# Altium schematic symbol library YH_Design.SchLib: 153 symbols (part 2 of 3)
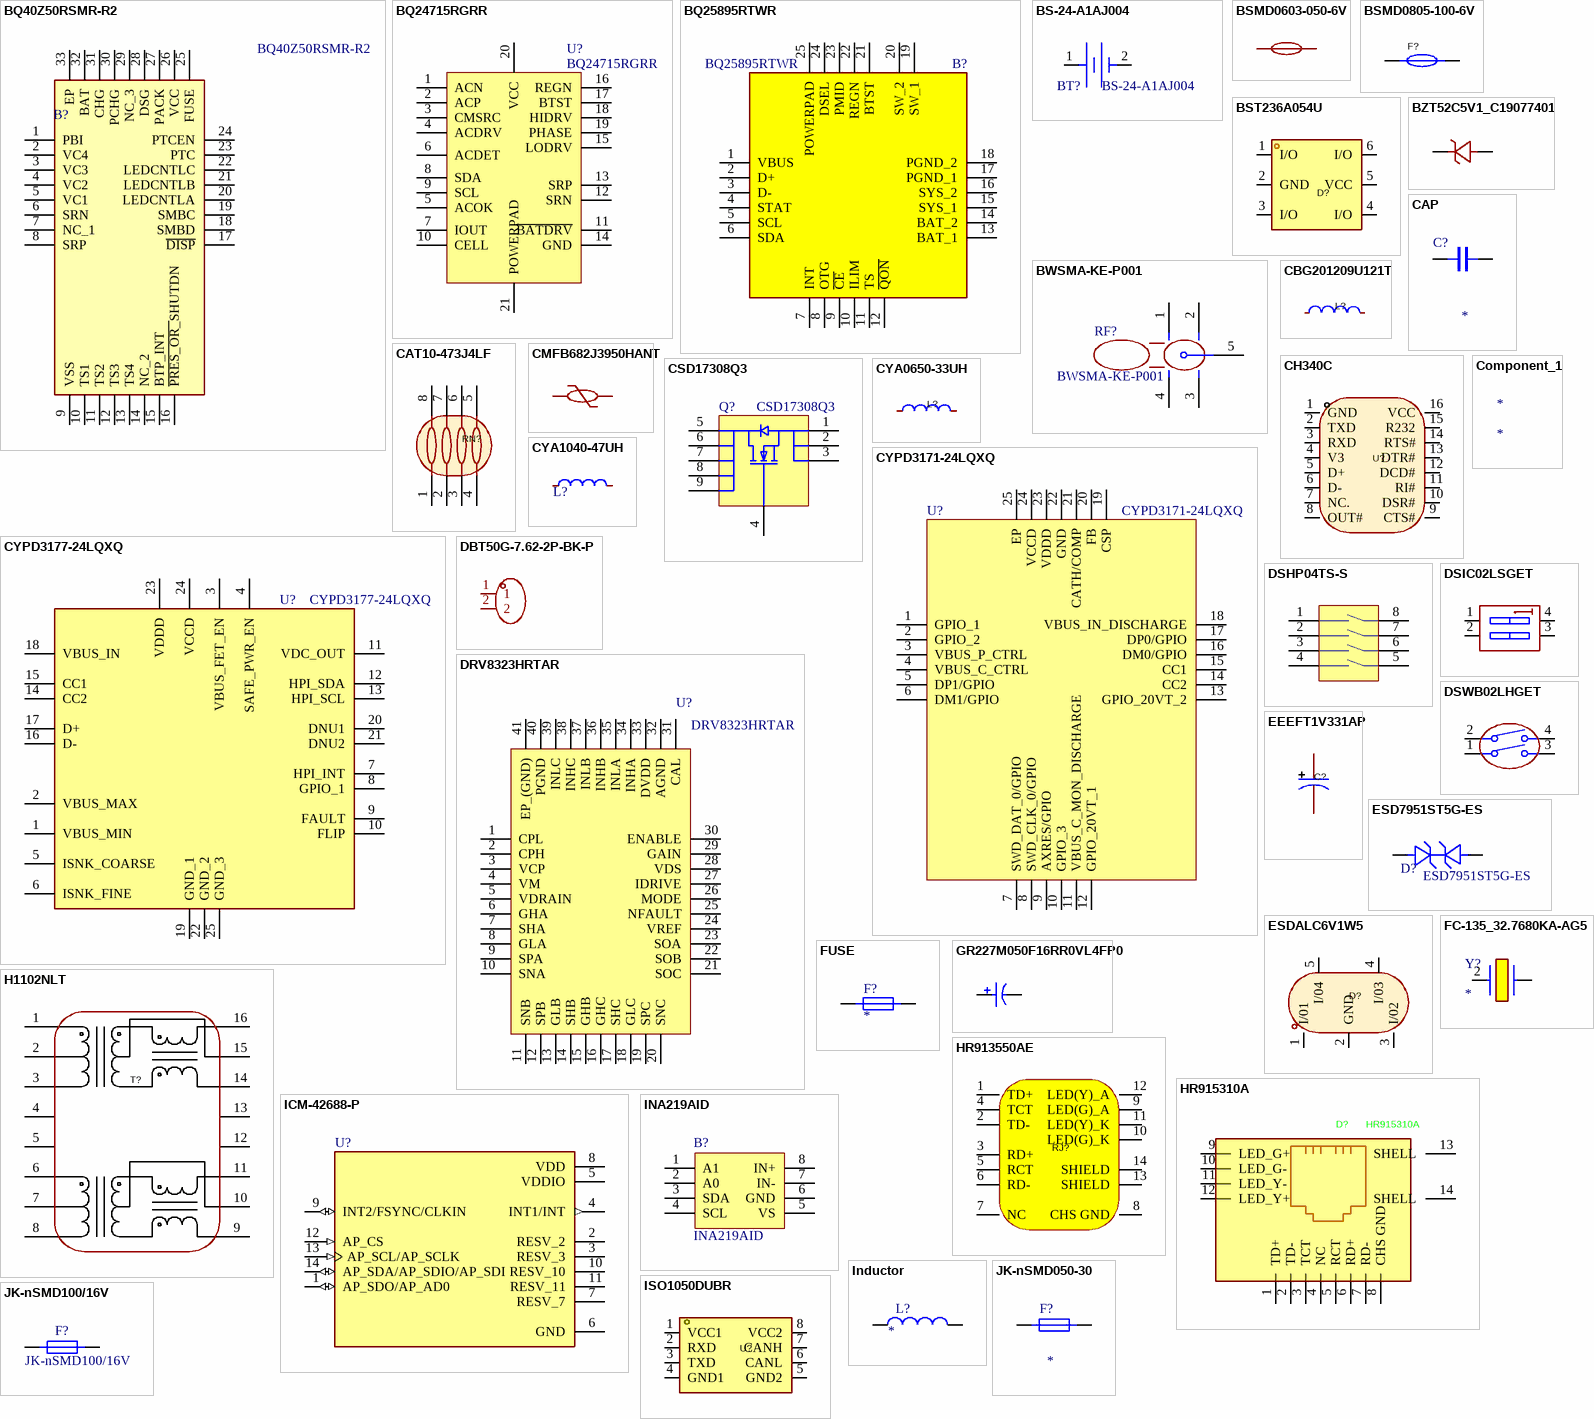
[diagram p8: symbols BQ40Z50RSMR-R2 to JK-nSMD100/16V]

## ICM-42688-P
designator U?
Accelerometer, Gyroscope, 6 Axis Sensor Output; MP: ICM-42688-P; Package: None; Value: *; Availability: Unavailable; Price: None
footprint PQFN50P300X250X97-14N
pins: 1 AP_SDO/AP_AD0 (io), 2 RESV_2, 3 RESV_3, 4 INT1/INT (out), 5 VDDIO (power), 6 GND (power), 7 RESV_7, 8 VDD (power), 9 INT2/FSYNC/CLKIN (io), 10 RESV_10, 11 RESV_11, 12 AP_CS (in), 13 AP_SCL/AP_SCLK (in), 14 AP_SDA/AP_SDIO/AP_SDI (io)

## INA219AID
designator B?
Current/Power Monitor Zero-Drift I2C SO8 Texas Instruments INA219AID, Current Monitor Single Bidirectional 8-Pin SOIC; Geometry.Height: 1.75mm; Manufacturer_Name: Texas Instruments; Manufacturer_Part_Number: INA219AID; Mouser Part Number: 595-INA219AID; Mouser Price/Stock: https://www.mouser.co.uk/ProductDetail/Texas-Instruments/INA219AID?qs=XGzIaZb%2FFYIUkaTzaWujeA%3D%3D; Arrow Part Number: INA219AID; Arrow Price/Stock: https://www.arrow.com/en/products/ina219aid/texas-instruments?utm_currency=USD&region=nac; Datasheet Link: http://www.ti.com/lit/ds/symlink/ina219.pdf
footprint SOIC127P600X175-8N
pins: 1 A1, 2 A0, 3 SDA, 4 SCL, 5 VS, 6 GND, 7 IN-, 8 IN+

## Inductor
designator L?
Inductor
footprint L0603
footprint L0805
footprint INDC1005X65N
pins: 1, 2

## ISO1050DUBR
designator U?  (value not drawn)
CAN Transiver; Manufacturer: TI(德州仪器); Add into BOM: yes; Symbol: ISO1050DUBR; Device: ISO1050DUBR; LCSC Part Name: 1Mbps 3V~5.5V; Supplier Part: C16428; Manufacturer Part: ISO1050DUBR; Supplier Footprint: SOP-8; JLCPCB Part Class: Extended Part; Datasheet: https://www.ti.com/cn/lit/gpn/iso1050; Supplier: LCSC; Convert to PCB: yes
footprint SOIC-8_L9.3-W6.6-P2.54-LS10.4-BL
pins: 1 VCC1, 2 RXD, 3 TXD, 4 GND1, 5 GND2, 6 CANL, 7 CANH, 8 VCC2

## JK-nSMD050-30
designator F?
30V 500mA 1206 PPTC
footprint F1206
pins: 1, 2

## JK-nSMD100/16V
designator F?
footprint F1206
pins: 1, 2

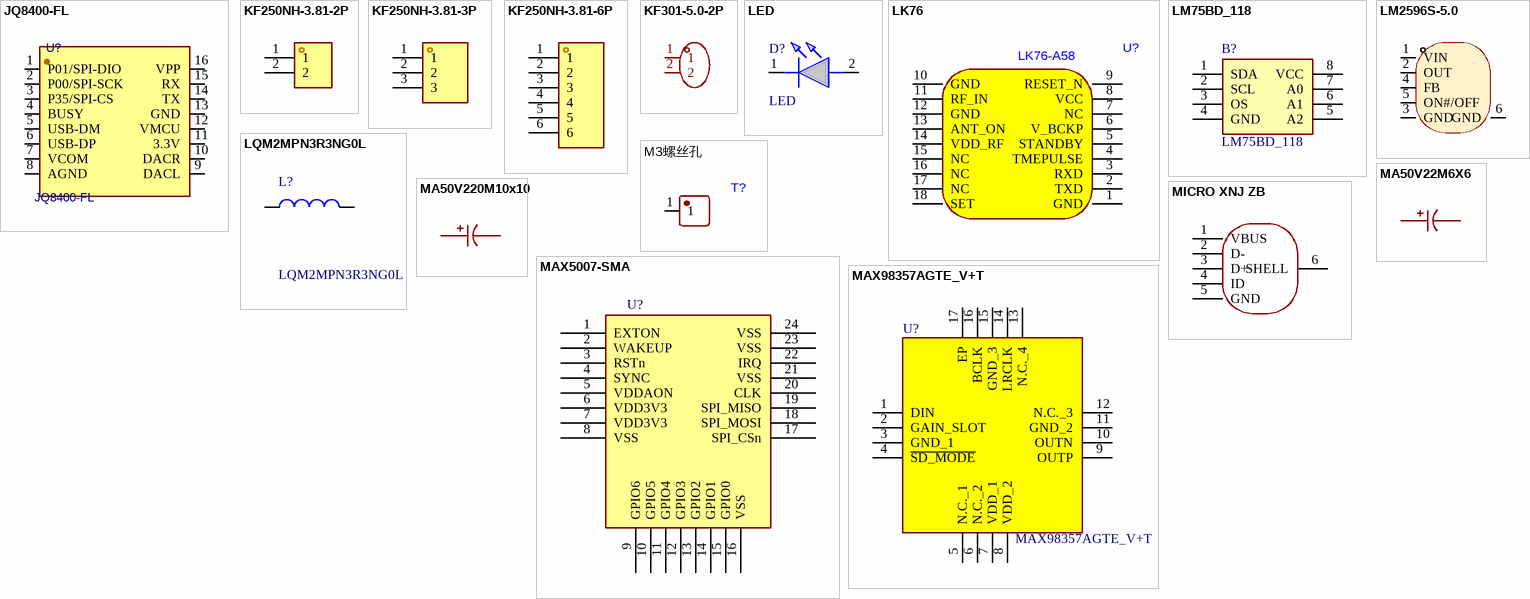
[diagram p3: symbols JQ8400-FL to MICRO XNJ ZB]

## JQ8400-FL
designator U?
Manufacturer: JQ; Contributor: youhaishan; Manufacturer Part: JQ8400-FL; spicePre: U; spiceSymbolName: JQ8400-FL
footprint JQ8400-FL_SOP16
pins: 1 P01/SPI-DIO, 2 P00/SPI-SCK, 3 P35/SPI-CS, 4 BUSY, 5 USB-DM, 6 USB-DP, 7 VCOM, 8 AGND, 9 DACL, 10 DACR, 11 3.3V, 12 VMCU, 13 GND, 14 TX, 15 RX, 16 VPP

## KF250NH-3.81-2P
designator CN?  (value not drawn)
Manufacturer: KEFA(科发); Add into BOM: yes; Structure: 1x2P; Pitch: 3.81mm; Number of PINs Per Row: 2; Current Rating (Max): 15A; Voltage Rating (Max): 250V; Wire Gauge - AWG: 16~20; Wire Gauge - mm2: 1.5; Symbol: KF250NH-3.81-2P; Device: KF250NH-3.81-2P; LCSC Part Name: 1x2P 3.81mm 每排P数:2 排数:1; Supplier Part: C976576; Manufacturer Part: KF250NH-3.81-2P; Supplier Footprint: 插件,P=3.81mm; JLCPCB Part Class: Extended Part; Datasheet: https://atta.szlcsc.com/upload/public/pdf/source/20230331/5FDF57859E00C3E92BC4C90704E69B44.pdf; Supplier: LCSC; Convert to PCB: yes; Color: 绿色; Mounting Style: -; Number of Pins: 2P; Operating Temperature Range: -40℃~+105℃; Number of Rows: 1
footprint CONN-TH_KF250NH-3.81-2P
3D model CONN-TH_KF250NH-3.81-2P
pins: 1, 2

## KF250NH-3.81-3P
designator CN?  (value not drawn)
Manufacturer: KEFA(科发); Add into BOM: yes; Structure: 1x3P; Pitch: 3.81mm; Number of PINs Per Row: 3; Current Rating (Max): 15A; Voltage Rating (Max): 250V; Wire Gauge - AWG: 16~20; Wire Gauge - mm2: 1.5; Symbol: KF250NH-3.81-3P; Device: KF250NH-3.81-3P; LCSC Part Name: 1x3P 3.81mm 每排P数:3 排数:1; Supplier Part: C976577; Manufacturer Part: KF250NH-3.81-3P; Supplier Footprint: 插件,P=3.81mm; JLCPCB Part Class: Extended Part; Datasheet: https://atta.szlcsc.com/upload/public/pdf/source/20230331/5FDF57859E00C3E92BC4C90704E69B44.pdf; Supplier: LCSC; Convert to PCB: yes; Color: 绿色; Mounting Style: -; Number of Pins: 3P; Operating Temperature Range: -40℃~+105℃; Number of Rows: 1
footprint CONN-TH_KF250NH-3.81-3P
3D model CONN-TH_KF250NH-3.81-3P
pins: 1, 2, 3

## KF250NH-3.81-6P
designator CN?  (value not drawn)
Manufacturer: KEFA(科发); Add into BOM: yes; Structure: 2x6P; Pitch: 3.81mm; Number of PINs Per Row: 6; Current Rating (Max): 15A; Voltage Rating (Max): 250V; Wire Gauge - AWG: 16~20; Wire Gauge - mm2: 1.5; Symbol: KF250NH-3.81-6P; Device: KF250NH-3.81-6P; Manufacturer Part: KF250NH-3.81-6P; Datasheet: https://atta.szlcsc.com/upload/public/pdf/source/20230317/14A5D911ED19005EE5AA9D1AD2D017FF.pdf; Supplier: LCSC; Convert to PCB: yes; Color: 绿色; Mounting Style: -; Number of Pins: 6P; Operating Temperature Range: -40℃~+105℃; Number of Rows: 2
footprint CONN-TH_KF250NH-3.81-6P
pins: 1, 2, 3, 4, 5, 6

## KF301-5.0-2P
designator U?  (value not drawn)
Manufacturer: KEFA(科发); Add into BOM: yes; Structure: 1x2P; Pitch: 5mm; Current Rating (Max): 17A; Voltage Rating (Max): 250V; Wire Gauge - AWG: 14~22; Wire Gauge - mm2: 1.5; Number of PINs Per Row: 2; Symbol: KF301-5.0-2P; Device: KF301-5.0-2P; LCSC Part Name: 5mm 1x2P 排数:1 每排P数:2 直插; Supplier Part: C474881; Manufacturer Part: KF301-5.0-2P; Supplier Footprint: 插件,P=5mm; JLCPCB Part Class: Extended Part; Datasheet: https://atta.szlcsc.com/upload/public/pdf/source/20230317/03A5B5FC229D6F9225E8F51DA1A4E80A.pdf; Supplier: LCSC; Convert to PCB: yes; Color: 蓝色; Mounting Style: 直插; Number of Pins: 2P; Number of Rows: 1; Operating Temperature Range: -30℃~+120℃
footprint CONN-TH_P5.00_KF301-5.0-2P
pins: 1, 2

## LED
designator D?
LED SMD 0805
footprint LED0805
pins: 1 K, 2 A

## LK76
designator U?, comment LK76-A58
GNSS Module
footprint LCC-18_9P7X10P1_STM-M
footprint LCC-18_9P7X10P1_STM
pins: 1 GND, 2 TXD, 3 RXD, 4 TMEPULSE, 5 STANDBY, 6 V_BCKP, 7 NC, 8 VCC, 9 RESET_N, 10 GND, 11 RF_IN, 12 GND, 13 ANT_ON, 14 VDD_RF, 15 NC, 16 NC, 17 NC, 18 SET

## LM75BD_118
designator B?
NXP - LM75BD,118 - TEMPERATURE SENSOR, OPEN DRAIN, SOIC-8; Geometry.Height: 1.75mm; Manufacturer_Name: NXP; Manufacturer_Part_Number: LM75BD,118; Mouser Part Number: 771-LM75BD118; Mouser Price/Stock: https://www.mouser.co.uk/ProductDetail/NXP-Semiconductors/LM75BD118?qs=tKEQ0l%252B78Dle%2FKEoz9Gpmw%3D%3D; Arrow Part Number: LM75BD,118; Arrow Price/Stock: https://www.arrow.com/en/products/lm75bd118/nxp-semiconductors?region=nac; Datasheet Link: http://www.nxp.com/docs/en/data-sheet/LM75B.pdf
footprint SOIC127P600X175-8N
pins: 1 SDA, 2 SCL, 3 OS, 4 GND, 5 A2, 6 A1, 7 A0, 8 VCC

## LM2596S-5.0
designator U?, comment LM2596S-5.0_1  (value not drawn)
3A Step-Down Voltage Regulator; Manufacturer: TWGMC(台湾迪嘉); Symbol: LM2596S-5.0_C5276750; Add into BOM: yes; Device: LM2596S-5.0_1; LCSC Part Name: LM2596S-5.0; Supplier Part: C5276750; Manufacturer Part: LM2596S-5.0; Supplier Footprint: TO-263-5; JLCPCB Part Class: Extended Part; Datasheet: https://atta.szlcsc.com/upload/public/pdf/source/20221121/BE66229392871E6008E3503EDFD620B9.pdf; Supplier: LCSC; Convert to PCB: yes
footprint TO-263-5_L10.1-W8.7-P1.70-LS15.2-BR
pins: 1 VIN, 2 OUT, 3 GND, 4 FB, 5 ON#/OFF, 6 GND

## LQM2MPN3R3NG0L
designator L?
Murata LQW2MP_G0 Series 3300 nH +/-30% Ferrite Multilayer SMD Inductor, 0806 Case, SRF: 0.03GHz 1200mA dc 150m Rdc; Manufacturer_Name: Murata Electronics; Geometry.Height: 1mm; Manufacturer_Part_Number: LQM2MPN3R3NG0L; Mouser Part Number: 81-LQM2MPN3R3NG0L; Mouser Price/Stock: https://www.mouser.co.uk/ProductDetail/Murata-Electronics/LQM2MPN3R3NG0L?qs=MY6wChARw2xMgrpfib3vlg%3D%3D; Arrow Part Number: LQM2MPN3R3NG0L; Arrow Price/Stock: https://www.arrow.com/en/products/lqm2mpn3r3ng0l/murata-manufacturing?utm_currency=USD&region=nac; Datasheet Link: https://search.murata.co.jp/Ceramy/image/img/P02/JELF243B-0022.pdf
footprint LQM2MPN1R0NG0L
pins: 1, 2

## M3螺丝孔
designator T?
footprint 螺丝孔
pins: 1

## MA50V22M6X6
designator C?, comment 22uF/50V  (value not drawn)
22uF  ±20%  50V 2.65A@100Hz  40mΩ@100kHz; Manufacturer: 捷而瑞; Symbol: MA50V220M10X10; Add into BOM: yes; Value: 220uF; Ripple Current: 3.1A@100Hz; Equivalent Series Resistance(ESR): 30mΩ@100kHz; Lifetime: 2000hrs@105℃; Device: MA50V220M10x10; LCSC Part Name: 220uF ±20% 50V; Supplier Part: C46550473; Manufacturer Part: MA50V220M10x10; Supplier Footprint: SMD,D10xL10mm; JLCPCB Part Class: Extended Part; Datasheet: https://atta.szlcsc.com/upload/public/pdf/source/20250507/5FE3DCC8DD77416CA868B53585912B92.pdf; Supplier: LCSC; Convert to PCB: yes; Tolerance: ±20%; Voltage Rating: 50V; Type: -; Diameter: 10mm; Height - Seated (Max): 10mm; Operating Temperature: -55℃~+105℃
footprint CAP-SMD_BD6.3-L6.6-W6.6-LS7.3-FD
pins: 1, 2

## MA50V220M10x10
designator C?, comment 220uF  (value not drawn)
Manufacturer: 捷而瑞; Symbol: MA50V220M10X10; Add into BOM: yes; Tolerance: ±20%; Voltage Rating: 50V; Ripple Current: 3.1A@100Hz; Equivalent Series Resistance(ESR): 30mΩ@100kHz; Lifetime: 2000hrs@105℃; Device: MA50V220M10x10; LCSC Part Name: 220uF ±20% 50V; Supplier Part: C46550473; Manufacturer Part: MA50V220M10x10; Supplier Footprint: SMD,D10xL10mm; JLCPCB Part Class: Extended Part; Datasheet: https://atta.szlcsc.com/upload/public/pdf/source/20250507/5FE3DCC8DD77416CA868B53585912B92.pdf; Supplier: LCSC; Convert to PCB: yes; Value: 220uF; Type: -; Diameter: 10mm; Height - Seated (Max): 10mm; Operating Temperature: -55℃~+105℃
footprint CAP-SMD_BD10.0-L10.3-W10.3-FD-1
3D model CAP-SMD_BD10.0-L10.3-W10.3-FD-1
pins: 1, 2

## MAX5007-SMA
designator U?  (value not drawn)
footprint LCC-24 30X13mm
pins: 1 EXTON, 2 WAKEUP, 3 RSTn, 4 SYNC, 5 VDDAON, 6 VDD3V3, 7 VDD3V3, 8 VSS, 9 GPIO6, 10 GPIO5, 11 GPIO4, 12 GPIO3, 13 GPIO2, 14 GPIO1, 15 GPIO0, 16 VSS, 17 SPI_CSn, 18 SPI_MOSI, 19 SPI_MISO, 20 CLK, 21 VSS, 22 IRQ, 23 VSS, 24 VSS

## MAX98357AGTE_V+T
designator U?
Tiny, Low-Cost, PCM Class D Amplifier with Class AB Performance; Manufacturer_Name: Analog Devices; Manufacturer_Part_Number: MAX98357AGTE/V+T; Geometry.Height: 0.8mm; Mouser Part Number: *; Mouser Price/Stock: *; Arrow Part Number: *; Arrow Price/Stock: *; Datasheet Link: https://pdfserv.maximintegrated.com/en/ds/MAX98357A-MAX98357B.pdf
footprint QFN50P300X300X80-17N
pins: 1 DIN, 2 GAIN_SLOT, 3 GND_1, 4 ~{SD_MODE}, 5 N.C._1, 6 N.C._2, 7 VDD_1, 8 VDD_2, 9 OUTP, 10 OUTN, 11 GND_2, 12 N.C._3, 13 N.C._4, 14 LRCLK, 15 GND_3, 16 BCLK, 17 EP

## MICRO XNJ ZB
designator U?  (value not drawn)
Micro USB Cable; Manufacturer: SHOU HAN(首韩); Add into BOM: yes; Connector Type: Micro-B; Gender: 母; Number of Ports: 1; Number of Contacts: 5P; Current Rating - Power (Max): 1.8A; Symbol: MICRO XNJ ZB; Device: MICRO XNJ ZB; Supplier: LCSC; Supplier Part: C668587; Manufacturer Part: MICRO XNJ ZB; JLCPCB Part Class: Extended Part; LCSC Part Name: Micro-B 母 卧贴; Supplier Footprint: SMD; Datasheet: https://atta.szlcsc.com/upload/public/pdf/source/20220415/B539C0029259EFDC9C3C32CC0240BFFF.pdf; Convert to PCB: yes; Standard: USB 2.0; Mounting Style: 卧贴; Operating Temperature Range: -30℃~+80℃
footprint MICRO-USB-SMD_MICRO-XNJ-ZB
pins: 1 VBUS, 2 D-, 3 D+, 4 ID, 5 GND, 6 SHELL

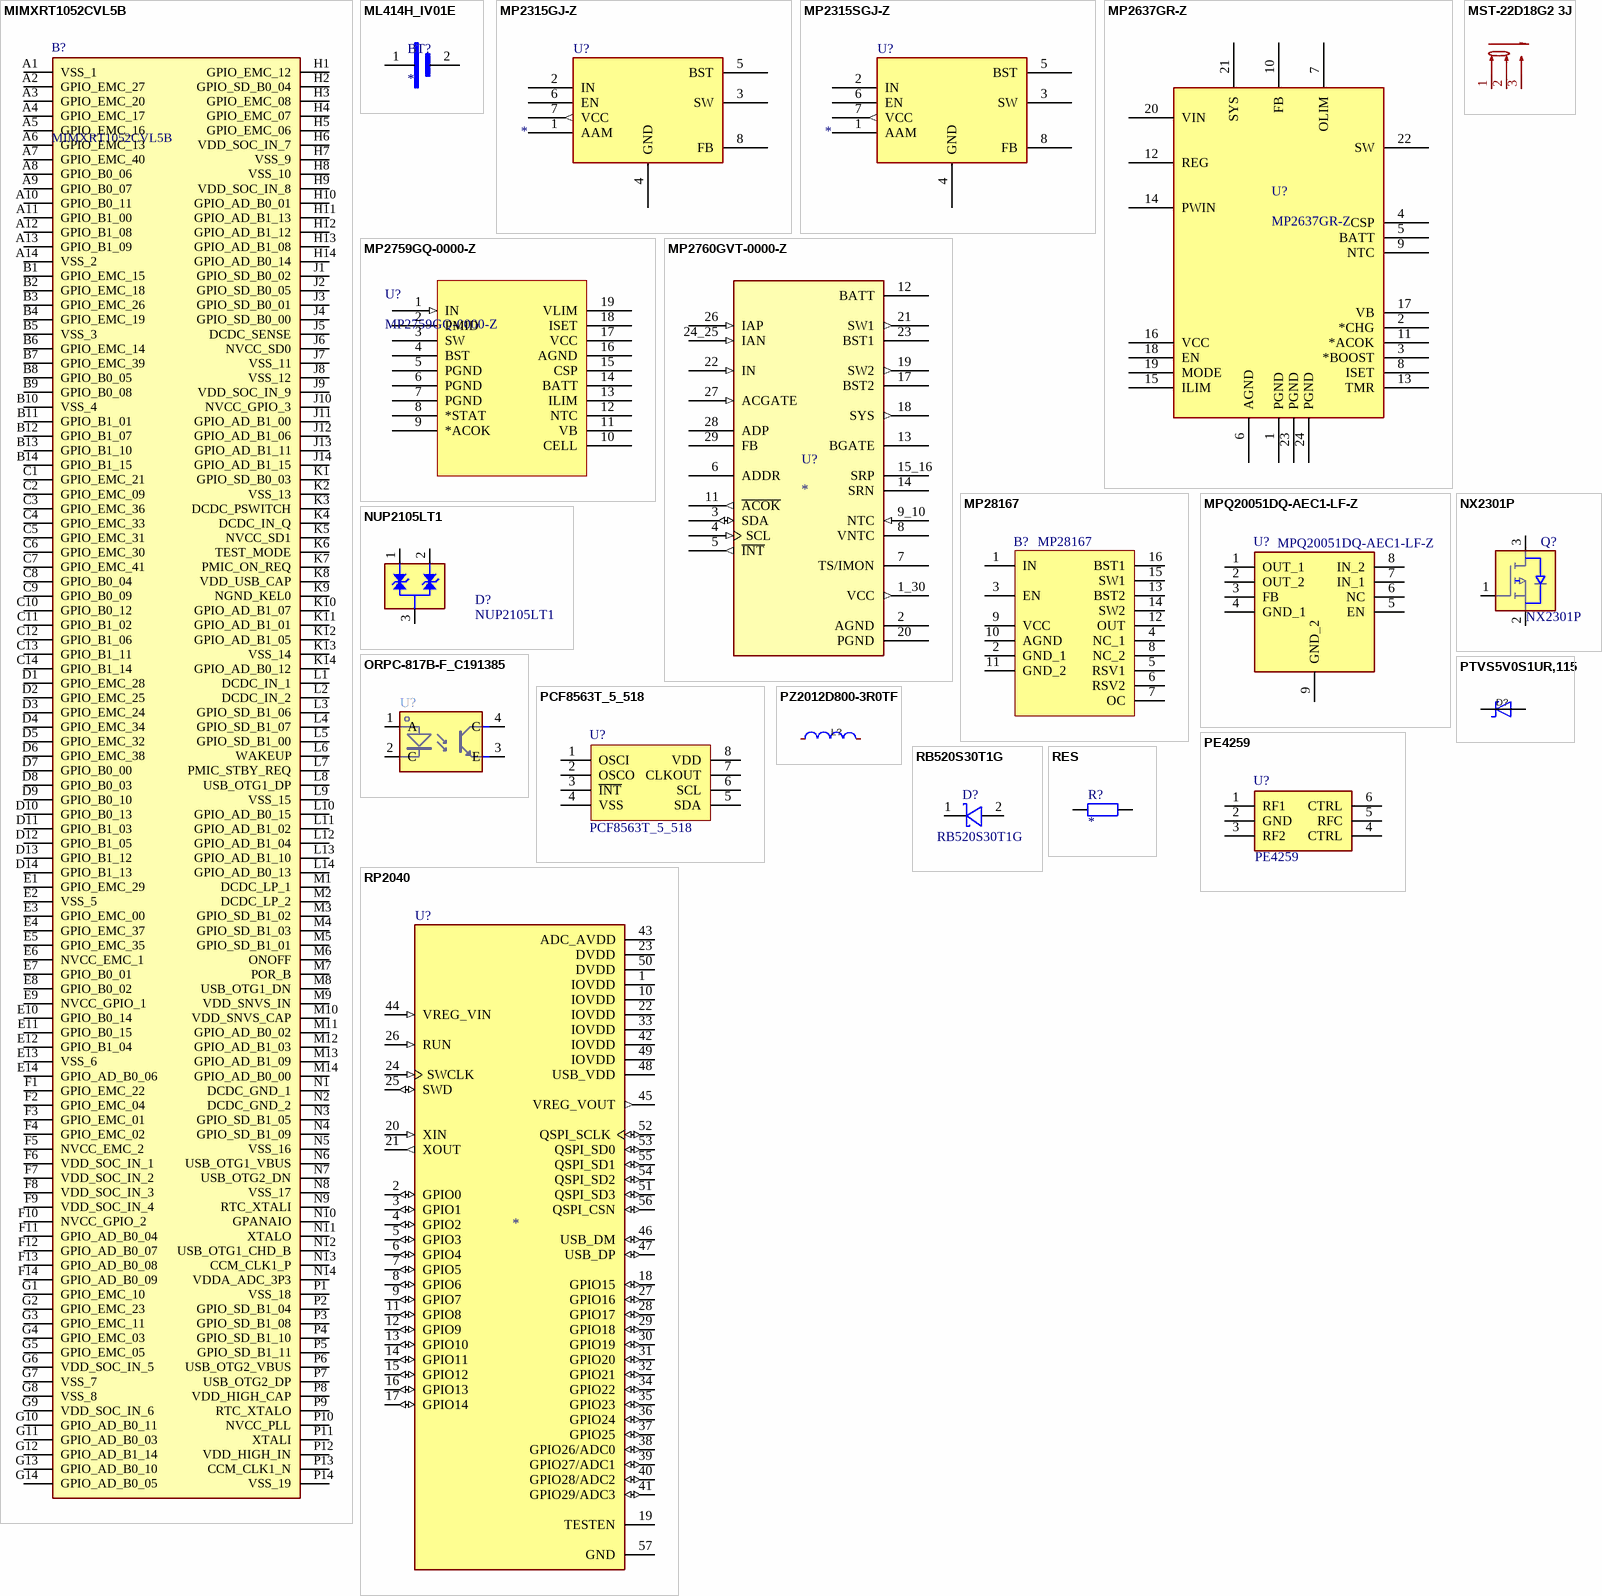
[diagram p4: symbols MIMXRT1052CVL5B to RP2040]

## MIMXRT1052CVL5B
designator B?
Processors - Application Specialized MIMXRT1052CVL5B/LFBGA196///STANDARD MARKING * TRAY; Manufacturer_Name: NXP; Geometry.Height: 1.43mm; Manufacturer_Part_Number: MIMXRT1052CVL5B; Mouser Part Number: 771-MIMXRT1052CVL5B; Mouser Price/Stock: https://www.mouser.co.uk/ProductDetail/NXP-Semiconductors/MIMXRT1052CVL5B?qs=r5DSvlrkXmK9jo7pim3G9A%3D%3D; Arrow Part Number: MIMXRT1052CVL5B; Arrow Price/Stock: https://www.arrow.com/en/products/mimxrt1052cvl5b/nxp-semiconductors?region=nac; Datasheet Link: https://www.nxp.com/part/MIMXRT1052CVL5B#/
footprint BGA196C65P14X14_1000X1000X143
pins: A1 VSS_1, A2 GPIO_EMC_27, A3 GPIO_EMC_20, A4 GPIO_EMC_17, A5 GPIO_EMC_16, A6 GPIO_EMC_13, A7 GPIO_EMC_40, A8 GPIO_B0_06, A9 GPIO_B0_07, A10 GPIO_B0_11, A11 GPIO_B1_00, A12 GPIO_B1_08, A13 GPIO_B1_09, A14 VSS_2, B1 GPIO_EMC_15, B2 GPIO_EMC_18, B3 GPIO_EMC_26, B4 GPIO_EMC_19, B5 VSS_3, B6 GPIO_EMC_14, B7 GPIO_EMC_39, B8 GPIO_B0_05, B9 GPIO_B0_08, B10 VSS_4, B11 GPIO_B1_01, B12 GPIO_B1_07, B13 GPIO_B1_10, B14 GPIO_B1_15, C1 GPIO_EMC_21, C2 GPIO_EMC_09, C3 GPIO_EMC_36, C4 GPIO_EMC_33, C5 GPIO_EMC_31, C6 GPIO_EMC_30, C7 GPIO_EMC_41, C8 GPIO_B0_04, C9 GPIO_B0_09, C10 GPIO_B0_12, C11 GPIO_B1_02, C12 GPIO_B1_06, C13 GPIO_B1_11, C14 GPIO_B1_14, D1 GPIO_EMC_28, D2 GPIO_EMC_25, D3 GPIO_EMC_24, D4 GPIO_EMC_34, D5 GPIO_EMC_32, D6 GPIO_EMC_38, D7 GPIO_B0_00, D8 GPIO_B0_03, D9 GPIO_B0_10, D10 GPIO_B0_13, D11 GPIO_B1_03, D12 GPIO_B1_05, D13 GPIO_B1_12, D14 GPIO_B1_13, E1 GPIO_EMC_29, E2 VSS_5, E3 GPIO_EMC_00, E4 GPIO_EMC_37, E5 GPIO_EMC_35, E6 NVCC_EMC_1, E7 GPIO_B0_01, E8 GPIO_B0_02, E9 NVCC_GPIO_1, E10 GPIO_B0_14, E11 GPIO_B0_15, E12 GPIO_B1_04, E13 VSS_6, E14 GPIO_AD_B0_06, F1 GPIO_EMC_22, F2 GPIO_EMC_04, F3 GPIO_EMC_01, F4 GPIO_EMC_02, F5 NVCC_EMC_2, F6 VDD_SOC_IN_1, F7 VDD_SOC_IN_2, F8 VDD_SOC_IN_3, F9 VDD_SOC_IN_4, F10 NVCC_GPIO_2, F11 GPIO_AD_B0_04, F12 GPIO_AD_B0_07, F13 GPIO_AD_B0_08, F14 GPIO_AD_B0_09, G1 GPIO_EMC_10, G2 GPIO_EMC_23, G3 GPIO_EMC_11, G4 GPIO_EMC_03, G5 GPIO_EMC_05, G6 VDD_SOC_IN_5, G7 VSS_7, G8 VSS_8, G9 VDD_SOC_IN_6, G10 GPIO_AD_B0_11, G11 GPIO_AD_B0_03, G12 GPIO_AD_B1_14, G13 GPIO_AD_B0_10, G14 GPIO_AD_B0_05, H1 GPIO_EMC_12, H2 GPIO_SD_B0_04, H3 GPIO_EMC_08, H4 GPIO_EMC_07, H5 GPIO_EMC_06, H6 VDD_SOC_IN_7, H7 VSS_9, H8 VSS_10, H9 VDD_SOC_IN_8, H10 GPIO_AD_B0_01, H11 GPIO_AD_B1_13, H12 GPIO_AD_B1_12, H13 GPIO_AD_B1_08, H14 GPIO_AD_B0_14, J1 GPIO_SD_B0_02, J2 GPIO_SD_B0_05, J3 GPIO_SD_B0_01, J4 GPIO_SD_B0_00, J5 DCDC_SENSE, J6 NVCC_SD0, J7 VSS_11, J8 VSS_12, J9 VDD_SOC_IN_9, J10 NVCC_GPIO_3, J11 GPIO_AD_B1_00, J12 GPIO_AD_B1_06, J13 GPIO_AD_B1_11, J14 GPIO_AD_B1_15, K1 GPIO_SD_B0_03, K2 VSS_13, K3 DCDC_PSWITCH, K4 DCDC_IN_Q, K5 NVCC_SD1, K6 TEST_MODE, K7 PMIC_ON_REQ, K8 VDD_USB_CAP, K9 NGND_KEL0, K10 GPIO_AD_B1_07, K11 GPIO_AD_B1_01, K12 GPIO_AD_B1_05, K13 VSS_14, K14 GPIO_AD_B0_12, L1 DCDC_IN_1, L2 DCDC_IN_2, L3 GPIO_SD_B1_06, L4 GPIO_SD_B1_07, L5 GPIO_SD_B1_00, L6 WAKEUP, L7 PMIC_STBY_REQ, L8 USB_OTG1_DP, L9 VSS_15, L10 GPIO_AD_B0_15, L11 GPIO_AD_B1_02, L12 GPIO_AD_B1_04, L13 GPIO_AD_B1_10, L14 GPIO_AD_B0_13, M1 DCDC_LP_1, M2 DCDC_LP_2, M3 GPIO_SD_B1_02, M4 GPIO_SD_B1_03, M5 GPIO_SD_B1_01, M6 ONOFF, M7 POR_B, M8 USB_OTG1_DN, M9 VDD_SNVS_IN, M10 VDD_SNVS_CAP, M11 GPIO_AD_B0_02, M12 GPIO_AD_B1_03, M13 GPIO_AD_B1_09, M14 GPIO_AD_B0_00, N1 DCDC_GND_1, N2 DCDC_GND_2, N3 GPIO_SD_B1_05, N4 GPIO_SD_B1_09, N5 VSS_16, N6 USB_OTG1_VBUS, N7 USB_OTG2_DN, N8 VSS_17, N9 RTC_XTALI, N10 GPANAIO, N11 XTALO, N12 USB_OTG1_CHD_B, N13 CCM_CLK1_P, N14 VDDA_ADC_3P3, P1 VSS_18, P2 GPIO_SD_B1_04, P3 GPIO_SD_B1_08, P4 GPIO_SD_B1_10, P5 GPIO_SD_B1_11, P6 USB_OTG2_VBUS, P7 USB_OTG2_DP, P8 VDD_HIGH_CAP, P9 RTC_XTALO, P10 NVCC_PLL, P11 XTALI, P12 VDD_HIGH_IN, P13 CCM_CLK1_N, P14 VSS_19

## ML414H_IV01E
designator BT?
Coin, 4.8mm 3 V Lithium Battery Rechargeable (Secondary) 1mAh; MF: Seiko Instruments; MP: ML414H IV01E; SnapEDA_Link: https://www.snapeda.com/parts/ML414H%20IV01E/Seiko/view-part/?ref=snap; Package: SOT-89 Seiko; Value: *; Check_prices: https://www.snapeda.com/parts/ML414H%20IV01E/Seiko/view-part/?ref=eda
footprint SEIKO_ML414H_IV01E
pins: 1 POS, 2 NEG

## MP2315GJ-Z
designator U?
footprint TSOT23-8_MP2315S_MNP
pins: 1 AAM (power), 2 IN, 3 SW (power), 4 GND (power), 5 BST, 6 EN (power), 7 VCC (out), 8 FB

## MP2315SGJ-Z
designator U?
footprint TSOT23-8_MP2315S_MNP
pins: 1 AAM (power), 2 IN, 3 SW (power), 4 GND (power), 5 BST, 6 EN (power), 7 VCC (out), 8 FB

## MP2637GR-Z
designator U?
2.5A Single Cell Switch Mode Battery Charger with Power Path Management (PPM) and 2.4A Boost Current with Trickle Timer; Manufacturer_Name: Monolithic Power Systems; Copyright: Copyright (C) 2025 Ultra Librarian. All rights reserved.; Manufacturer_Part_Number: MP2637GR-Z; Datasheet: https://www.monolithicpower.com/en/documentview/productdocument/index/version/2/document_type/Datasheet/lang/en/sku/MP2637GR-Z; RefDes: RefDes; Type: Type
footprint QFN-24_MP2637_MNP
pins: 1 PGND (power), 2 *CHG, 3 *BOOST, 4 CSP, 5 BATT, 6 AGND (power), 7 OLIM, 8 ISET, 9 NTC, 10 FB, 11 *ACOK, 12 REG, 13 TMR, 14 PWIN, 15 ILIM, 16 VCC (power), 17 VB, 18 EN, 19 MODE, 20 VIN (power), 21 SYS, 22 SW, 23 PGND (power), 24 PGND (power)

## MP2759GQ-0000-Z
designator U?
36V 3A Switching Charger with Integrated MOSFETs and Power Path Management for 1-6 Cell Batteries; Manufacturer_Name: Monolithic Power Systems; Copyright: Copyright (C) 2025 Ultra Librarian. All rights reserved.; Manufacturer_Part_Number: MP2759GQ-0000-Z; Datasheet: https://www.monolithicpower.com/en/documentview/productdocument/index/version/2/document_type/Datasheet/lang/en/sku/MP2759GQ; RefDes: RefDes; Type: Type
footprint QFN-19_MP2759_MNP
pins: 1 IN (in), 2 PMID, 3 SW, 4 BST (power), 5 PGND (power), 6 PGND (power), 7 PGND (power), 8 *STAT, 9 *ACOK, 10 CELL, 11 VB, 12 NTC, 13 ILIM, 14 BATT, 15 CSP, 16 AGND (power), 17 VCC (power), 18 ISET, 19 VLIM

## MP2760GVT-0000-Z
designator U?
Charger IC Multi-Chemistry 30-TQFN (4x5); MF: Monolithic Power Systems Inc.; MP: MP2760GVT-0000-Z; Package: None; Price: None; Check_prices: https://www.snapeda.com/parts/MP2760GVT-0000-Z/Monolithic+Power+Systems+Inc./view-part/?ref=eda; Value: *; SnapEDA_Link: https://www.snapeda.com/parts/MP2760GVT-0000-Z/Monolithic+Power+Systems+Inc./view-part/?ref=snap; Availability: In Stock; Purchase-URL: https://pricing.snapeda.com/search/part/MP2760GVT-0000-Z/?ref=eda
footprint MP2760GVT-0000-Z
pins: 1_30 VCC (out), 2 AGND (power), 3 SDA (io), 4 SCL (in), 5 ~{INT} (out), 6 ADDR, 7 TS/IMON, 8 VNTC, 9_10 NTC (in), 11 ~{ACOK} (out), 12 BATT (power), 13 BGATE, 14 SRN, 15_16 SRP, 17 BST2, 18 SYS (out), 19 SW2 (out), 20 PGND (power), 21 SW1 (out), 22 IN (in), 23 BST1, 24_25 IAN (in), 26 IAP (in), 27 ACGATE (in), 28 ADP, 29 FB

## MP28167
designator B?
2.8V-22V VIN, 3A IOUT, 4-Switch Integrated Buck-Boost Converter with Fixed 5V Output; Manufacturer_Name: Monolithic Power Systems (MPS); Geometry.Height: 1mm; Manufacturer_Part_Number: MP28167; Mouser Part Number: *; Mouser Price/Stock: *; Arrow Part Number: *; Arrow Price/Stock: *; Datasheet Link: https://www.monolithicpower.com/en/documentview/productdocument/index/version/2/document_type/Datasheet/lang/en/sku/MP28167GQ/document_id/4000/
footprint MP28167
pins: 1 IN, 2 GND_1, 3 EN, 4 NC_1, 5 RSV1, 6 RSV2, 7 OC, 8 NC_2, 9 VCC, 10 AGND, 11 GND_2, 12 OUT, 13 BST2, 14 SW2, 15 SW1, 16 BST1

## MPQ20051DQ-AEC1-LF-Z
designator U?
IC REG LINEAR POS ADJ 1A 8QFN; Manufacturer_Name: Monolithic Power Systems (MPS); Geometry.Height: 1mm; Manufacturer_Part_Number: MPQ20051DQ-AEC1-LF-Z; Mouser Part Number: 946-MP20051DQAEC1LFZ; Mouser Price/Stock: https://www.mouser.co.uk/ProductDetail/Monolithic-Power-Systems-MPS/MPQ20051DQ-AEC1-LF-Z?qs=pdFhdcvjjgg88bTtFYkvpg%3D%3D; Arrow Part Number: *; Arrow Price/Stock: *; Datasheet Link: https://ms.componentsearchengine.com/Datasheets/1/MPQ20051DQ-AEC1-LF-Z.pdf
footprint SON65P300X300X100-9N
pins: 1 OUT_1, 2 OUT_2, 3 FB, 4 GND_1, 5 EN, 6 NC, 7 IN_1, 8 IN_2, 9 GND_2

## MST-22D18G2 3J
designator SW?  (value not drawn)
Manufacturer: SHOU HAN(首韩); Symbol: MST-22D18G2 3J_C2875122; Add into BOM: yes; Circuit: 单刀双掷; Pin Style: SMD接片; Switch Length: 9.1mm; Switch Width: 3.6mm; Switch Height: 3.45mm; Current Rating (DC): 50mA; Voltage Rating (DC): 12V; Mechanical Life: 1万次; Device: MST-22D18G2 3J; LCSC Part Name: 拨动开关 2档3脚立式贴片 柄高2MM 9.1*3.5*2.0mm; Supplier Part: C2875122; Manufacturer Part: MST-22D18G2 3J; Supplier Footprint: SMD; JLCPCB Part Class: Extended Part; Supplier: LCSC; Convert to PCB: yes; Actuator Style: -; Mounting Style: 立贴; Actuator Color: -; Current Rating (AC): -; Voltage Rating (AC): -; Operating Temperature: -30℃~+80℃
footprint SW-SMD_SHOUHAN_MST-22D18G23J_C2875122
3D model SW-SMD_SHOUHAN_MST-22D18G23J_C2875122
pins: 1, 2, 3

## NUP2105LT1
designator D?
ESD/TVS
footprint SOT-23-3_L2.9-W1.3-P1.90-LS2.4-BR
pins: 1, 2, 3
2 alternate drawings of the same symbol

## NX2301P
designator Q?
MOSFET (P-Channel); Manufacturer_Name: Nexperia; Datasheet Link: https://componentsearchengine.com/Datasheets/2/NX2301P.pdf; Height: 1.1mm; Manufacturer_Part_Number: NX2301P; Mouser Part Number: N/A; Mouser Price/Stock: https://www.mouser.co.uk/ProductDetail/Nexperia/NX2301P?qs=vHuUswq2%252BszH4Yupy0ZL9A%3D%3D
footprint TL431CDBZR215
pins: 1 G, 2 S, 3 D

## ORPC-817B-F_C191385
designator U?  (value not drawn)
photo-coupler; Manufacturer: Orient(奥伦德); Add into BOM: yes; Input voltage type: DC; Output Type: 光电三极管; Forward Voltage: 1.2V; Output Current: 50mA; Isolation Voltage(rms): 5kV; Reverse Voltage: 6V; Receiving End Voltage: 35V; Number of Outputs: 1; Collector-Emitter Saturation Voltage (Vce(sat)@Ic,IF): 100mV@1mA,20mA; Rise time: 4us@2mA,100Ω; Fall time: 3us@2mA,100Ω; Symbol: ORPC-817B; Device: ORPC-817B-F_C191385; LCSC Part Name: DC输入 隔离电压(rms):5000V; Supplier Part: C191385; Manufacturer Part: ORPC-817B-F; Supplier Footprint: DIP-4; JLCPCB Part Class: Extended Part; Datasheet: https://atta.szlcsc.com/upload/public/pdf/source/20180424/C191385_EFEA9FBAF692D85FC7884957AAC614AF.pdf; Supplier: LCSC; Convert to PCB: yes; Operating Temperature: -30℃~+100℃
footprint DIP-4_L6.4-W4.6-P2.54-LS7.6-BL
pins: 1 A, 2 C, 3 E, 4 C

## PCF8563T_5_518
designator U?
Real Time Clock; Manufacturer_Name: NXP; Manufacturer_Part_Number: PCF8563T/5,518; Geometry.Height: 1.75mm; Mouser Part Number: 771-PCF8563T/5518; Mouser Price/Stock: https://www.mouser.co.uk/ProductDetail/NXP-Semiconductors/PCF8563T-5518?qs=beN0Cyoe8YmsvsbXpQCrnw%3D%3D; Arrow Part Number: PCF8563T/5,518; Arrow Price/Stock: https://www.arrow.com/en/products/pcf8563t5518/nxp-semiconductors?utm_currency=USD&region=europe; Datasheet Link: http://www.nxp.com/docs/en/data-sheet/PCF8563.pdf
footprint SOIC127P600X175-8N
pins: 1 OSCI, 2 OSCO, 3 ~{INT}, 4 VSS, 5 SDA, 6 SCL, 7 CLKOUT, 8 VDD

## PE4259
designator U?
PART NUMBER ONLY; Manufacturer_Name: Peregrine Semiconductor; Geometry.Height: 1.1mm; Manufacturer_Part_Number: PE4259; Mouser Part Number: N/A; Mouser Price/Stock: https://www.mouser.co.uk/ProductDetail/pSemi/PE4259?qs=HXFqYaX1Q2z4M17diTt2%252BA%3D%3D; Arrow Part Number: *; Arrow Price/Stock: *; Datasheet Link: https://datasheet.datasheetarchive.com/originals/distributors/SFDatasheet-2/sf-00045491.pdf
footprint SOT65P210X110-6N
pins: 1 RF1, 2 GND, 3 RF2, 4 CTRL, 5 RFC, 6 CTRL

## PTVS5V0S1UR,115
designator D?  (value not drawn)
Manufacturer: Nexperia(安世); Add into BOM: yes; Reverse Stand-Off Voltage (Vrwm): 5V; Maximum Clamping Voltage: 9.2V; Peak Pulse Current (Ipp)@10/1000us: 43.5A; Peak Pulse Power Dissipation (Ppp)@10/1000us: 400W; Breakdown Voltage: 6.4V; Type: TVS; Symbol: PTVS5V0S1UR,115; Device: PTVS5V0S1UR,115; LCSC Part Name: PTVS5V0S1UR,115; Supplier Part: C478011; Manufacturer Part: PTVS5V0S1UR,115; Supplier Footprint: SOD-123W; JLCPCB Part Class: Extended Part; Datasheet: https://atta.szlcsc.com/upload/public/pdf/source/20200102/C478011_F05D9968189F983388C839BB3EF367D6.pdf; Supplier: LCSC; Convert to PCB: yes
footprint SOD-123_L2.8-W1.8-LS3.7-RD
3D model SOD-123_L2.8-W1.8-LS3.7-RD
pins: 1 C, 2 A

## PZ2012D800-3R0TF
designator L?  (value not drawn)
magnetic bead 80Ω 100MHZ; Manufacturer: Sunlord(顺络); Add into BOM: yes; Impedance @ Frequency: 80Ω@100MHz; Tolerance: ±25%; DC Resistance: 40mΩ; Current Rating: 3A; Circuits: 1; Symbol: PZ2012D800-3R0TF; Device: PZ2012D800-3R0TF; Value: 80Ω; Supplier: LCSC; Manufacturer Part: PZ2012D800-3R0TF; Supplier Part: C12389; JLCPCB Part Class: Extended Part; LCSC Part Name: 单路 0805磁珠 阻抗80Ω@100MHz; Supplier Footprint: 0805; Datasheet: https://atta.szlcsc.com/upload/public/pdf/source/20231030/F43855F21424F0FE92DFF7D0215109E2.pdf; Convert to PCB: yes
footprint L0805
pins: 1, 2

## RB520S30T1G
designator D?
Schottky Diode 30 V 200mA (DC) Surface Mount SOD-523; Manufacturer Part: SS54; Manufacturer: MDD; Symbol: SS54_C22452; Add into BOM: yes; Forward Voltage (Vf@If): 550mV@5A; Reverse Voltage (Vr): 40V; Average Rectified Current (Io): 5A; Reverse Leakage Current (Ir): 1mA@40V; Device: SS54_C22452; Supplier: LCSC; Supplier Part: C22452; JLCPCB Part Class: Basic Part; LCSC Part Name: 电压:40V 电流:5A; Supplier Footprint: SMA(DO-214AC); Datasheet: https://atta.szlcsc.com/upload/public/pdf/source/20230314/529CD85F9B31F69841D3A079BC07E377.pdf; Convert to PCB: yes
footprint SOD-523F_L1.2-W0.8-LS1.7-RD
pins: 1 K, 2 A

## RES
designator R?
Resistor
footprint R0805
footprint R2512
footprint R1206
footprint R0603
footprint RES-TH_BD2.4-L6.3-P10.30-D0.6
footprint R0402
pins: 1, 2

## RP2040
designator U?
RP2040 chip for Raspberry Pi Pico - ARM® Cortex®-M0+ MCU 32-Bit; SnapEDA_Link: https://www.snapeda.com/parts/RP2040/Raspberry+Pi/view-part/?ref=snap; Package: None; Value: *; MF: Raspberry Pi; MP: RP2040; Check_prices: https://www.snapeda.com/parts/RP2040/Raspberry+Pi/view-part/?ref=eda
footprint QFN40P700X700X90-57N
pins: 1 IOVDD (power), 2 GPIO0 (io), 3 GPIO1 (io), 4 GPIO2 (io), 5 GPIO3 (io), 6 GPIO4 (io), 7 GPIO5 (io), 8 GPIO6 (io), 9 GPIO7 (io), 10 IOVDD (power), 11 GPIO8 (io), 12 GPIO9 (io), 13 GPIO10 (io), 14 GPIO11 (io), 15 GPIO12 (io), 16 GPIO13 (io), 17 GPIO14 (io), 18 GPIO15 (io), 19 TESTEN, 20 XIN (in), 21 XOUT (out), 22 IOVDD (power), 23 DVDD (power), 24 SWCLK (in), 25 SWD (io), 26 RUN (in), 27 GPIO16 (io), 28 GPIO17 (io), 29 GPIO18 (io), 30 GPIO19 (io), 31 GPIO20 (io), 32 GPIO21 (io), 33 IOVDD (power), 34 GPIO22 (io), 35 GPIO23 (io), 36 GPIO24 (io), 37 GPIO25 (io), 38 GPIO26/ADC0 (io), 39 GPIO27/ADC1 (io), 40 GPIO28/ADC2 (io), 41 GPIO29/ADC3 (io), 42 IOVDD (power), 43 ADC_AVDD (power), 44 VREG_VIN (in), 45 VREG_VOUT (out), 46 USB_DM (io), 47 USB_DP (io), 48 USB_VDD (power), 49 IOVDD (power), 50 DVDD (power), 51 QSPI_SD3 (io), 52 QSPI_SCLK (io), 53 QSPI_SD0 (io), 54 QSPI_SD2 (io), 55 QSPI_SD1 (io), 56 QSPI_CSN (io), 57 GND (power)

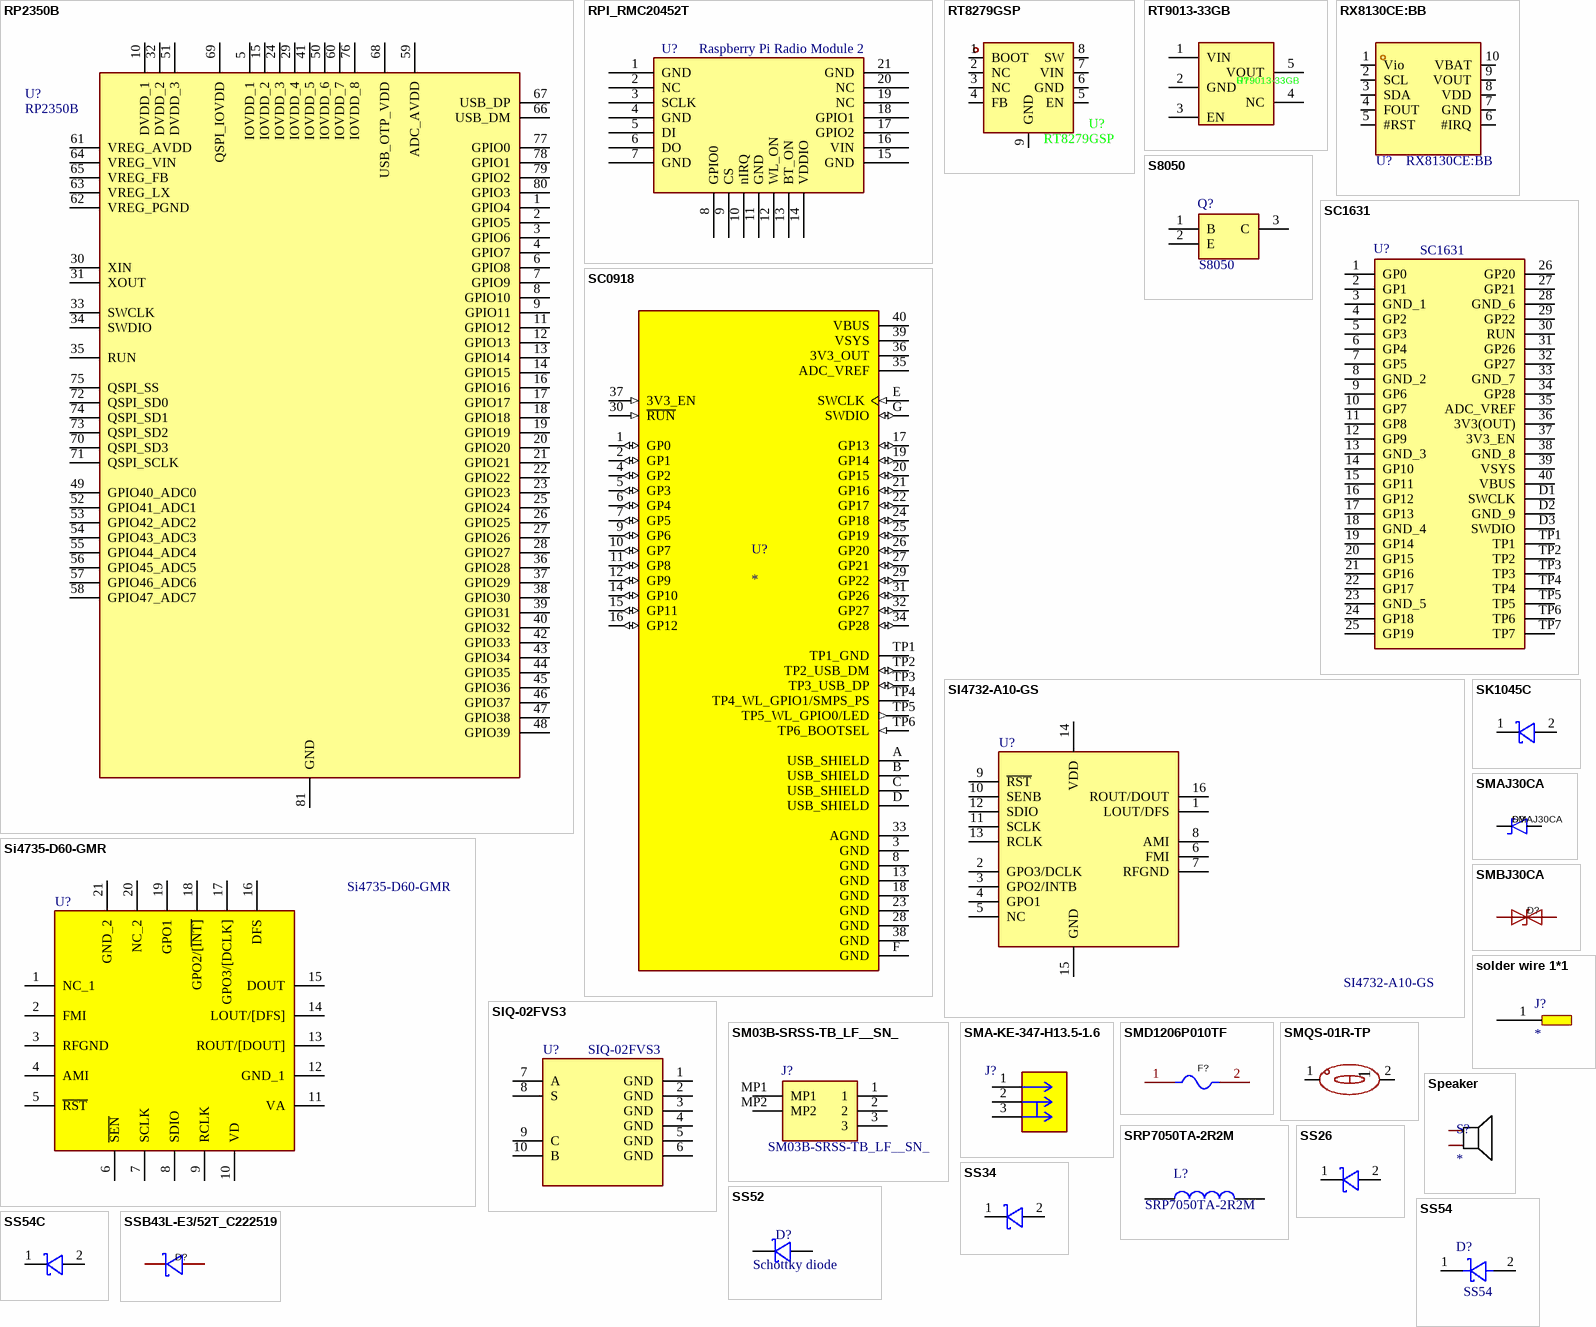
[diagram p5: symbols RP2350B to SSB43L-E3/52T_C222519]

## RP2350B
designator U?
Dual Arm Cortex-M33 or dual Hazard3 RISC-V processors @ 150MHz; Manufacturer_Name: RASPBERRY-PI; Geometry.Height: 0.9mm; Manufacturer_Part_Number: RP2350B; Mouser Part Number: *; Mouser Price/Stock: *; Arrow Part Number: *; Arrow Price/Stock: *; Datasheet Link: https://datasheets.raspberrypi.com/rp2350/rp2350-product-brief.pdf
footprint QFN40P1000X1000X90-81N-D
pins: 1 GPIO4, 2 GPIO5, 3 GPIO6, 4 GPIO7, 5 IOVDD_1, 6 GPIO8, 7 GPIO9, 8 GPIO10, 9 GPIO11, 10 DVDD_1, 11 GPIO12, 12 GPIO13, 13 GPIO14, 14 GPIO15, 15 IOVDD_2, 16 GPIO16, 17 GPIO17, 18 GPIO18, 19 GPIO19, 20 GPIO20, 21 GPIO21, 22 GPIO22, 23 GPIO23, 24 IOVDD_3, 25 GPIO24, 26 GPIO25, 27 GPIO26, 28 GPIO27, 29 IOVDD_4, 30 XIN, 31 XOUT, 32 DVDD_2, 33 SWCLK, 34 SWDIO, 35 RUN, 36 GPIO28, 37 GPIO29, 38 GPIO30, 39 GPIO31, 40 GPIO32, 41 IOVDD_5, 42 GPIO33, 43 GPIO34, 44 GPIO35, 45 GPIO36, 46 GPIO37, 47 GPIO38, 48 GPIO39, 49 GPIO40_ADC0, 50 IOVDD_6, 51 DVDD_3, 52 GPIO41_ADC1, 53 GPIO42_ADC2, 54 GPIO43_ADC3, 55 GPIO44_ADC4, 56 GPIO45_ADC5, 57 GPIO46_ADC6, 58 GPIO47_ADC7, 59 ADC_AVDD, 60 IOVDD_7, 61 VREG_AVDD, 62 VREG_PGND, 63 VREG_LX, 64 VREG_VIN, 65 VREG_FB, 66 USB_DM, 67 USB_DP, 68 USB_OTP_VDD, 69 QSPI_IOVDD, 70 QSPI_SD3, 71 QSPI_SCLK, 72 QSPI_SD0, 73 QSPI_SD2, 74 QSPI_SD1, 75 QSPI_SS, 76 IOVDD_8, 77 GPIO0, 78 GPIO1, 79 GPIO2, 80 GPIO3, 81 GND

## RPI_RMC20452T
designator U?, comment Raspberry Pi Radio Module 2
footprint RP-008965-DP-Radio-Module-2
pins: 1 GND, 2 NC, 3 SCLK, 4 GND, 5 DI, 6 DO, 7 GND, 8 GPIO0, 9 CS, 10 nIRQ, 11 GND, 12 WL_ON, 13 BT_ON, 14 VDDIO, 15 GND, 16 VIN, 17 GPIO2, 18 GPIO1, 19 NC, 20 NC, 21 GND

## RT8279GSP
designator U?
Manufacturer: RICHTEK(立锜); Add into BOM: yes; Function: 降压型; Output Type: 可调; Input Voltage: 5.5V~36V; Output Voltage: 1.222V~26V; Output Current: 5A; Switching Frequency: 500kHz; Synchronous Rectification: 否; Number of Outputs: 1; Topology: 降压式; Switch tube (built-in/external): 内置; Supplier Part: C53194; Manufacturer Part: RT8279GSP; Supplier Footprint: SOP-8-EP-150mil; JLCPCB Part Class: Extended Part; Datasheet: https://atta.szlcsc.com/upload/public/pdf/source/20170918/C130810_1505703419259975336.pdf; Supplier: LCSC; Convert to PCB: yes; Operating Temperature: -40℃~+85℃@(TA); Device: RT8279GSP; LCSC Part Name: 5A 36V 500kHz降压转换器; Symbol: RT8279GSP
footprint SOP-8_L4.9-W3.9-P1.27-LS6.0-BL-EP
3D model SOP-8_L4.9-W3.9-H1.7-LS6.0-P1.30
pins: 1 BOOT, 2 NC, 3 NC, 4 FB, 5 EN, 6 GND, 7 VIN, 8 SW, 9 GND

## RT9013-33GB
designator U?
Manufacturer: RICHTEK(立锜); Add into BOM: yes; Output Type: 固定; Maximum Input Voltage: 5.5V; Output Voltage: 3.3V; Output Current: 500mA; Power Supply Rejection Ratio (PSRR): 50dB@(10kHz); Dropout Voltage: 400mV@(500mA); standby current: 50uA; Output Polarity: 正极; Number of Outputs: 1; Symbol: RT9013-33GB; Device: RT9013-33GB; LCSC Part Name: 输入5.5V 输出3.3V 500mA; Supplier Part: C47773; Manufacturer Part: RT9013-33GB; Supplier Footprint: SOT-23-5; JLCPCB Part Class: Extended Part; Datasheet: https://atta.szlcsc.com/upload/public/pdf/source/20150504/1457707282459.pdf; Supplier: LCSC; Convert to PCB: yes; Noise: -; Feature: 低ESR；防静电保护；热保护(TSD)；过流保护(OCP)；带使能; Operating Temperature: -40℃~+85℃
footprint SOT-23-5_L3.0-W1.7-P0.95-LS2.8-BL
3D model SOT-23-5_L2.9-W1.6-H1.1-LS2.8-P0.95
pins: 1 VIN, 2 GND, 3 EN, 4 NC, 5 VOUT

## RX8130CE:BB
designator U?
External RTC; Manufacturer: EPSON(爱普生); Add into BOM: yes; Interface: I2C; Operating Voltage: 1.25V~5.5V; Symbol: RX8130CE:BB; Device: RX8130CE:BB; Supplier: LCSC; Supplier Part: C1542426; Manufacturer Part: RX8130CE:BB; JLCPCB Part Class: Extended Part; LCSC Part Name: RX8130CE:BB; Supplier Footprint: SMD-10P; Datasheet: https://atta.szlcsc.com/upload/public/pdf/source/20210509/C1542426_AE65C9FFC7FCE42B49C3324013847DE2.pdf; Convert to PCB: yes; Operating Temperature: -40℃~+85℃
footprint RTC-SMD_L3.2-W2.5-P0.7-RX8130CE
pins: 1 Vio, 2 SCL, 3 SDA, 4 FOUT, 5 #RST, 6 #IRQ, 7 GND, 8 VDD, 9 VOUT, 10 VBAT

## S8050
designator Q?
Transistors (NPN/PNP) NPN 500mA 25V SOT-23(SOT-23-3) RoHS; Manufacturer_Name: Yenji Elec; Geometry.Height: 1.15mm; Manufacturer_Part_Number: S8050; Mouser Part Number: *; Mouser Price/Stock: *; Arrow Part Number: *; Arrow Price/Stock: *; Datasheet Link: https://datasheet.lcsc.com/szlcsc/Yenji-Elec-S8050_C139514.pdf
footprint SOT95P240X115-3N
pins: 1 B, 2 E, 3 C

## SC0918
designator U?
RP2040 Raspberry Pi Pico - ARMÂ® CortexÂ®-M0+ MCU 32-Bit Embedded Evaluation Board; MP: SC0918; MF: Raspberry Pi; Package: None; Price: None; Check_prices: https://www.snapeda.com/parts/SC0918/Raspberry+Pi/view-part/?ref=eda; Value: *; SnapEDA_Link: https://www.snapeda.com/parts/SC0918/Raspberry+Pi/view-part/?ref=snap; Availability: In Stock; Purchase-URL: https://pricing.snapeda.com/search/part/SC0918/?ref=eda
footprint MODULE_SC0918
pins: 1 GP0 (io), 2 GP1 (io), 3 GND (power), 4 GP2 (io), 5 GP3 (io), 6 GP4 (io), 7 GP5 (io), 8 GND (power), 9 GP6 (io), 10 GP7 (io), 11 GP8 (io), 12 GP9 (io), 13 GND (power), 14 GP10 (io), 15 GP11 (io), 16 GP12 (io), 17 GP13 (io), 18 GND (power), 19 GP14 (io), 20 GP15 (io), 21 GP16 (io), 22 GP17 (io), 23 GND (power), 24 GP18 (io), 25 GP19 (io), 26 GP20 (io), 27 GP21 (io), 28 GND (power), 29 GP22 (io), 30 ~{RUN} (in), 31 GP26 (io), 32 GP27 (io), 33 AGND (power), 34 GP28 (io), 35 ADC_VREF (power), 36 3V3_OUT (power), 37 3V3_EN (in), 38 GND (power), 39 VSYS (power), 40 VBUS (power), A USB_SHIELD (power), B USB_SHIELD (power), C USB_SHIELD (power), D USB_SHIELD (power), E SWCLK (in), F GND (power), G SWDIO (io), TP1 TP1_GND (power), TP2 TP2_USB_DM (io), TP3 TP3_USB_DP (io), TP4 TP4_WL_GPIO1/SMPS_PS, TP5 TP5_WL_GPIO0/LED (out), TP6 TP6_BOOTSEL (in)

## SC1631
designator U?
Single Board Computers Pico 2 pairs RP2350 with 4MB of on-board QSPI Flash memory; Manufacturer_Name: RASPBERRY-PI; Geometry.Height: 4.5mm; Manufacturer_Part_Number: SC1631; Mouser Part Number: 358-SC1631; Mouser Price/Stock: https://www.mouser.co.uk/ProductDetail/Raspberry-Pi/SC1631?qs=IKkN%2F947nfBrS4NBdUxzKQ%3D%3D; Arrow Part Number: *; Arrow Price/Stock: *; Datasheet Link: https://datasheets.raspberrypi.com/pico/pico-2-datasheet.pdf
footprint SC1631
pins: 1 GP0, 2 GP1, 3 GND_1, 4 GP2, 5 GP3, 6 GP4, 7 GP5, 8 GND_2, 9 GP6, 10 GP7, 11 GP8, 12 GP9, 13 GND_3, 14 GP10, 15 GP11, 16 GP12, 17 GP13, 18 GND_4, 19 GP14, 20 GP15, 21 GP16, 22 GP17, 23 GND_5, 24 GP18, 25 GP19, 26 GP20, 27 GP21, 28 GND_6, 29 GP22, 30 RUN, 31 GP26, 32 GP27, 33 GND_7, 34 GP28, 35 ADC_VREF, 36 3V3(OUT), 37 3V3_EN, 38 GND_8, 39 VSYS, 40 VBUS, D1 SWCLK, D2 GND_9, D3 SWDIO, TP1, TP2, TP3, TP4, TP5, TP6, TP7

## SI4732-A10-GS
designator U?
RF RX AM/FM 520KHZ-1.71MHZ SOIC; Manufacturer_Name: Skyworks; Geometry.Height: 1.75mm; Manufacturer_Part_Number: SI4732-A10-GS; Mouser Part Number: 634-SI4732-A10-GS; Mouser Price/Stock: https://www.mouser.co.uk/ProductDetail/Skyworks-Solutions-Inc/SI4732-A10-GS?qs=p9T7GgSe1IFCUks4Oy6aSA%3D%3D; Arrow Part Number: SI4732-A10-GS; Arrow Price/Stock: https://www.arrow.com/en/products/si4732-a10-gs/skyworks-solutions?utm_currency=USD&region=nac; Datasheet Link: https://www.mouser.com/datasheet/2/472/Si4732_A10_short-2492991.pdf
footprint SOIC127P600X175-16N
pins: 1 LOUT/DFS, 2 GPO3/DCLK, 3 GPO2/INTB, 4 GPO1, 5 NC, 6 FMI, 7 RFGND, 8 AMI, 9 ~{RST}, 10 SENB, 11 SCLK, 12 SDIO, 13 RCLK, 14 VDD, 15 GND, 16 ROUT/DOUT

## Si4735-D60-GMR
designator U?
- RF Receiver AM, FM, LW-SW, WB 153kHz ~ 279kHz, 520kHz ~ 1.71MHz, 2.3MHz ~ 26.1MHz, 64MHz ~ 108MHz PCB, Surface Mount 20-QFN (3x3); Manufacturer_Name: Skyworks; Geometry.Height: 0.6mm; Manufacturer_Part_Number: Si4735-D60-GMR; Mouser Part Number: 634-SI4735-D60-GMR; Mouser Price/Stock: https://www.mouser.co.uk/ProductDetail/Skyworks-Solutions-Inc/Si4735-D60-GMR?qs=C%2F0tY%2F%2FqZe%2FsM%2FIja%2Fa49g%3D%3D; Arrow Part Number: SI4735-D60-GMR; Arrow Price/Stock: https://www.arrow.com/en/products/si4735-d60-gmr/skyworks-solutions?utm_currency=USD&region=nac; Datasheet Link: https://www.skyworksinc.com/-/media/Skyworks/SL/documents/public/data-sheets/Si4730-31-34-35-D60.pdf
footprint Si4735D60GMR
pins: 1 NC_1, 2 FMI, 3 RFGND, 4 AMI, 5 ~{RST}, 6 ~{SEN}, 7 SCLK, 8 SDIO, 9 RCLK, 10 VD, 11 VA, 12 GND_1, 13 ROUT/[DOUT], 14 LOUT/[DFS], 15 DOUT, 16 DFS, 17 GPO3/[DCLK], 18 GPO2/[~{INT]}, 19 GPO1, 20 NC_2, 21 GND_2

## SIQ-02FVS3
designator U?
Slide and Rotary Encoder Switches; Manufacturer_Name: MITSUMI; Manufacturer_Part_Number: SIQ-02FVS3
footprint SW-SMD_SIQ-02FVS3_1
pins: 1 GND, 2 GND, 3 GND, 4 GND, 5 GND, 6 GND, 7 A, 8 S, 9 C, 10 B

## SK1045C
designator D?  (value not drawn)
Schottky diode Vf 550mV@10A 10A Vr 45V; Manufacturer: 宏嘉诚; Manufacturer Part: SS54C; Symbol: SS54C_C18199188; Add into BOM: yes; Diode Configuration: 独立式; Voltage - DC Reverse(Vr): 40V; Current - Rectified: 5A; Reverse Leakage Current (Ir): 150uA@40V; Device: SS54C_C18199188; LCSC Part Name: 电压:40V 电流:5A; Supplier Part: C18199188; Supplier Footprint: SMC; JLCPCB Part Class: Extended Part; Datasheet: https://atta.szlcsc.com/upload/public/pdf/source/20250121/C8C02882BF646CD53749048C4D8B1479.pdf; Supplier: LCSC; Convert to PCB: yes; Voltage - Forward(Vf@If): -
footprint SMC_L6.9-W5.9-LS7.9-RD
3D model SMC_L6.9-W5.9-LS7.9-RD
pins: 1 K, 2 A

## SM03B-SRSS-TB_LF__SN_
designator J?
Wire To Board / Wire To Wire Connector RoHS; Manufacturer_Name: JST (JAPAN SOLDERLESS TERMINALS); Manufacturer_Part_Number: SM03B-SRSS-TB(LF)(SN); Geometry.Height: 2.9mm; Mouser Part Number: N/A; Mouser Price/Stock: https://www.mouser.co.uk/ProductDetail/JST-Commercial/SM03B-SRSS-TBLFSN?qs=IKkN%2F947nfBpJw20m79wuw%3D%3D; Arrow Part Number: SM03B-SRSS-TB(LF)(SN); Arrow Price/Stock: https://www.arrow.com/en/products/sm03b-srss-tb-lf-sn/jst-manufacturing?utm_currency=USD&region=europe; Datasheet Link: http://www.jst-mfg.com/product/pdf/eng/eSR.pdf
footprint SM03BSRSSTBLFSN
pins: 1, 2, 3, MP1, MP2

## SMA-KE-347-H13.5-1.6
designator J?
50Ohms Edge Mount SMA Connector, jack, Solder Termination; MF: Molex; MP: 73251-1150; SnapEDA_Link: https://www.snapeda.com/parts/73251-1150/Molex/view-part/?ref=snap; Package: None; Value: *; Check_prices: https://www.snapeda.com/parts/73251-1150/Molex/view-part/?ref=eda
pins: 1, 2, 3

## SMAJ30CA
designator D?
Littelfuse Vrwm 30V  Ipp 8.3A@10/1000us; Manufacturer: Littelfuse(美国力特); Manufacturer Part: SMBJ30CA; Symbol: SMBJ30CA_C83847; Add into BOM: yes; Maximum Clamping Voltage: 48.4V; Peak Pulse Current (Ipp)@10/1000us: 12.4A; Peak Pulse Power Dissipation (Ppp)@10/1000us: 600W; Breakdown Voltage: 33.3V; Type: TVS; Device: SMBJ30CA_C83847; LCSC Part Name: SMBJ30CA; Supplier Part: C83847; Supplier Footprint: SMB(DO-214AA); JLCPCB Part Class: Extended Part; Datasheet: https://atta.szlcsc.com/upload/public/pdf/source/20190807/C409416_D98C874D944FBE9BE31A2BD6B7A21533.pdf; Supplier: LCSC; Convert to PCB: yes; Reverse Stand-Off Voltage (Vrwm): 30V
footprint SMA_L4.4-W2.8-LS5.4-RD
pins: 1 A2, 2 A1

## SMBJ30CA
designator D?
Manufacturer: Littelfuse(美国力特); Manufacturer Part: SMBJ30CA; Symbol: SMBJ30CA_C83847; Add into BOM: yes; Reverse Stand-Off Voltage (Vrwm): 30V; Maximum Clamping Voltage: 48.4V; Peak Pulse Current (Ipp)@10/1000us: 12.4A; Peak Pulse Power Dissipation (Ppp)@10/1000us: 600W; Breakdown Voltage: 33.3V; Type: TVS; Device: SMBJ30CA_C83847; LCSC Part Name: SMBJ30CA; Supplier Part: C83847; Supplier Footprint: SMB(DO-214AA); JLCPCB Part Class: Extended Part; Datasheet: https://atta.szlcsc.com/upload/public/pdf/source/20190807/C409416_D98C874D944FBE9BE31A2BD6B7A21533.pdf; Supplier: LCSC; Convert to PCB: yes
footprint SMB_L4.3-W3.6-LS5.4-BI
pins: 1 A2, 2 A1

## SMD1206P010TF
designator F?  (value not drawn)
自恢复保险丝; Manufacturer: RUILON(瑞隆源); Add into BOM: yes; Operating Voltage (Max): 60V; Current Rating (Max): 100A; Hold Current: 100mA; Trip Current: 250mA; Symbol: SMD1206P010TF; Device: SMD1206P010TF; Supplier: LCSC; Manufacturer Part: SMD1206P010TF; Supplier Part: C20981; JLCPCB Part Class: Extended Part; LCSC Part Name: 60V 100mA 1206自恢复; Supplier Footprint: 1206; Datasheet: https://atta.szlcsc.com/upload/public/pdf/source/20181119/C43379_3D256B7D9E6408C4632C18906C4B3500.pdf; Convert to PCB: yes
footprint FUSE-1206
pins: 1, 2

## SMQS-01R-TP
designator U?  (value not drawn)
Manufacturer: SM Switch; Add into BOM: yes; Number of Positions: 1位; Current Rating: 25mA; Voltage Rating: 24V; Operating Life: 5千次; Symbol: SMQS-01R-TP; Device: SMQS-01R-TP; LCSC Part Name: 平拨,凸起式1位拨码开关; Supplier Part: C5299502; Manufacturer Part: SMQS-01R-TP; Supplier Footprint: -; JLCPCB Part Class: Extended Part; Datasheet: https://atta.szlcsc.com/upload/public/pdf/source/20230428/BECBF613F67C0CF733CC6E01F0CA4E67.pdf; Supplier: LCSC; Convert to PCB: yes; Type: 平拨,凸起式; Circuit: -; Pin Style: -; Lead Pitch: -; Operating Temperature: -40℃~+85℃; Color: 红色
footprint SW-TH_KF1001-01P-B0-FL-ON-01B
3D model SW-TH_KF1001-01P-B0-FL-ON-01B
pins: 1, 2

## solder wire 1*1
designator J?
solder wire
footprint Solder Wire 1 PIN
pins: 1

## Speaker
designator S?
4Ω 3W Speaker
pins: 1, 2

## SRP7050TA-2R2M
designator L?
BOURNS - SRP7050TA-2R2M - Power Inductor (SMD), 2.2 H, 10 A, Shielded, 14 A, SRP7050TA Series, 7.3mm x 6.6mm x 4.8mm; Geometry.Height: 5mm; Manufacturer_Name: Bourns; Manufacturer_Part_Number: SRP7050TA-2R2M; Mouser Part Number: 652-SRP7050TA-2R2M; Mouser Price/Stock: https://www.mouser.co.uk/ProductDetail/Bourns/SRP7050TA-2R2M?qs=ZwKJWZfDtNiyvVGgNvlV%2FQ%3D%3D; Arrow Part Number: SRP7050TA-2R2M; Arrow Price/Stock: https://www.arrow.com/en/products/srp7050ta-2r2m/bourns?region=nac; Datasheet Link: https://octopart.com/datasheet/srp7050ta-2r2m-bourns-64724110
footprint INDPM7366X500N
pins: 1, 2

## SS26
designator D?
Schottky diode Vf 700mV@2A Vr 60V If 2A; Manufacturer: MDD(辰达半导体); Manufacturer Part: SS34; Symbol: SS34_C8678; Add into BOM: yes; Diode Configuration: 独立式; Forward Voltage (Vf@If): 550mV@3A; Reverse Voltage (Vr): 40V; Rectified Current: 3A; Reverse Leakage Current (Ir): 500uA@40V; Device: SS34_C8678; LCSC Part Name: 电压:40V 电流:3A; Supplier Part: C8678; Supplier Footprint: SMA(DO-214AC); JLCPCB Part Class: Basic Part; Datasheet: https://atta.szlcsc.com/upload/public/pdf/source/20240710/2118BB86FDDB2E0B294389AC1F3F65C8.pdf; Supplier: LCSC; Convert to PCB: yes
footprint SMA_L4.3-W2.6-LS5.2-RD
footprint SMA_L4.4-W2.6-LS5.0-RD
pins: 1 K, 2 A

## SS34
designator D?
Schottky diode; Manufacturer: MDD(辰达半导体); Manufacturer Part: SS34; Symbol: SS34_C8678; Add into BOM: yes; Diode Configuration: 独立式; Forward Voltage (Vf@If): 550mV@3A; Reverse Voltage (Vr): 40V; Rectified Current: 3A; Reverse Leakage Current (Ir): 500uA@40V; Device: SS34_C8678; LCSC Part Name: 电压:40V 电流:3A; Supplier Part: C8678; Supplier Footprint: SMA(DO-214AC); JLCPCB Part Class: Basic Part; Datasheet: https://atta.szlcsc.com/upload/public/pdf/source/20240710/2118BB86FDDB2E0B294389AC1F3F65C8.pdf; Supplier: LCSC; Convert to PCB: yes
footprint SMA_L4.3-W2.6-LS5.2-RD
pins: 1 K, 2 A

## SS52
designator D?, comment Schottky diode
footprint SMB_L4.6-W3.6-LS5.3-RD
pins: 1 A, 2 K

## SS54
designator D?
Schottky diode; Manufacturer: MDD; Symbol: SS54_C22452; Add into BOM: yes; Forward Voltage (Vf@If): 550mV@5A; Reverse Voltage (Vr): 40V; Average Rectified Current (Io): 5A; Reverse Leakage Current (Ir): 1mA@40V; Device: SS54_C22452; Supplier: LCSC; Manufacturer Part: SS54; Supplier Part: C22452; JLCPCB Part Class: Basic Part; LCSC Part Name: 电压:40V 电流:5A; Supplier Footprint: SMA(DO-214AC); Datasheet: https://atta.szlcsc.com/upload/public/pdf/source/20230314/529CD85F9B31F69841D3A079BC07E377.pdf; Convert to PCB: yes
footprint SMA_L4.4-W2.8-LS5.4-RD
pins: 1 K, 2 A

## SS54C
designator D?  (value not drawn)
Schottky diode C18199188; Manufacturer: 宏嘉诚; Symbol: SS54C_C18199188; Add into BOM: yes; Diode Configuration: 独立式; Voltage - DC Reverse(Vr): 40V; Current - Rectified: 5A; Reverse Leakage Current (Ir): 150uA@40V; Device: SS54C_C18199188; LCSC Part Name: 电压:40V 电流:5A; Supplier Part: C18199188; Manufacturer Part: SS54C; Supplier Footprint: SMC; JLCPCB Part Class: Extended Part; Datasheet: https://atta.szlcsc.com/upload/public/pdf/source/20250121/C8C02882BF646CD53749048C4D8B1479.pdf; Supplier: LCSC; Convert to PCB: yes; Voltage - Forward(Vf@If): -
footprint SMC_L6.9-W5.9-LS7.9-RD
3D model SMC_L6.9-W5.9-LS7.9-RD
pins: 1 K, 2 A

## SSB43L-E3/52T_C222519
designator D?  (value not drawn)
High Current Density Surface Mount Schottky Rectifier; Manufacturer: VISHAY(威世); Add into BOM: yes; Forward Voltage (Vf@If): 380mV@4A; Reverse Voltage (Vr): 30V; Average Rectified Current (Io): 4A; Reverse Leakage Current (Ir): 600uA@30V; Symbol: SSB43L-E3/52T; Device: SSB43L-E3/52T_C222519; LCSC Part Name: 电压:30V 电流:4A; Supplier Part: C222519; Manufacturer Part: SSB43L-E3/52T; Supplier Footprint: SMB(DO-214AA); JLCPCB Part Class: Extended Part; Datasheet: https://atta.szlcsc.com/upload/public/pdf/source/20180518/C222519_6DA81A74F9A38AE64AD118926C2C6C0C.pdf; Supplier: LCSC; Convert to PCB: yes
footprint SMB_L4.6-W3.6-LS5.3-RD
pins: 1 K, 2 A

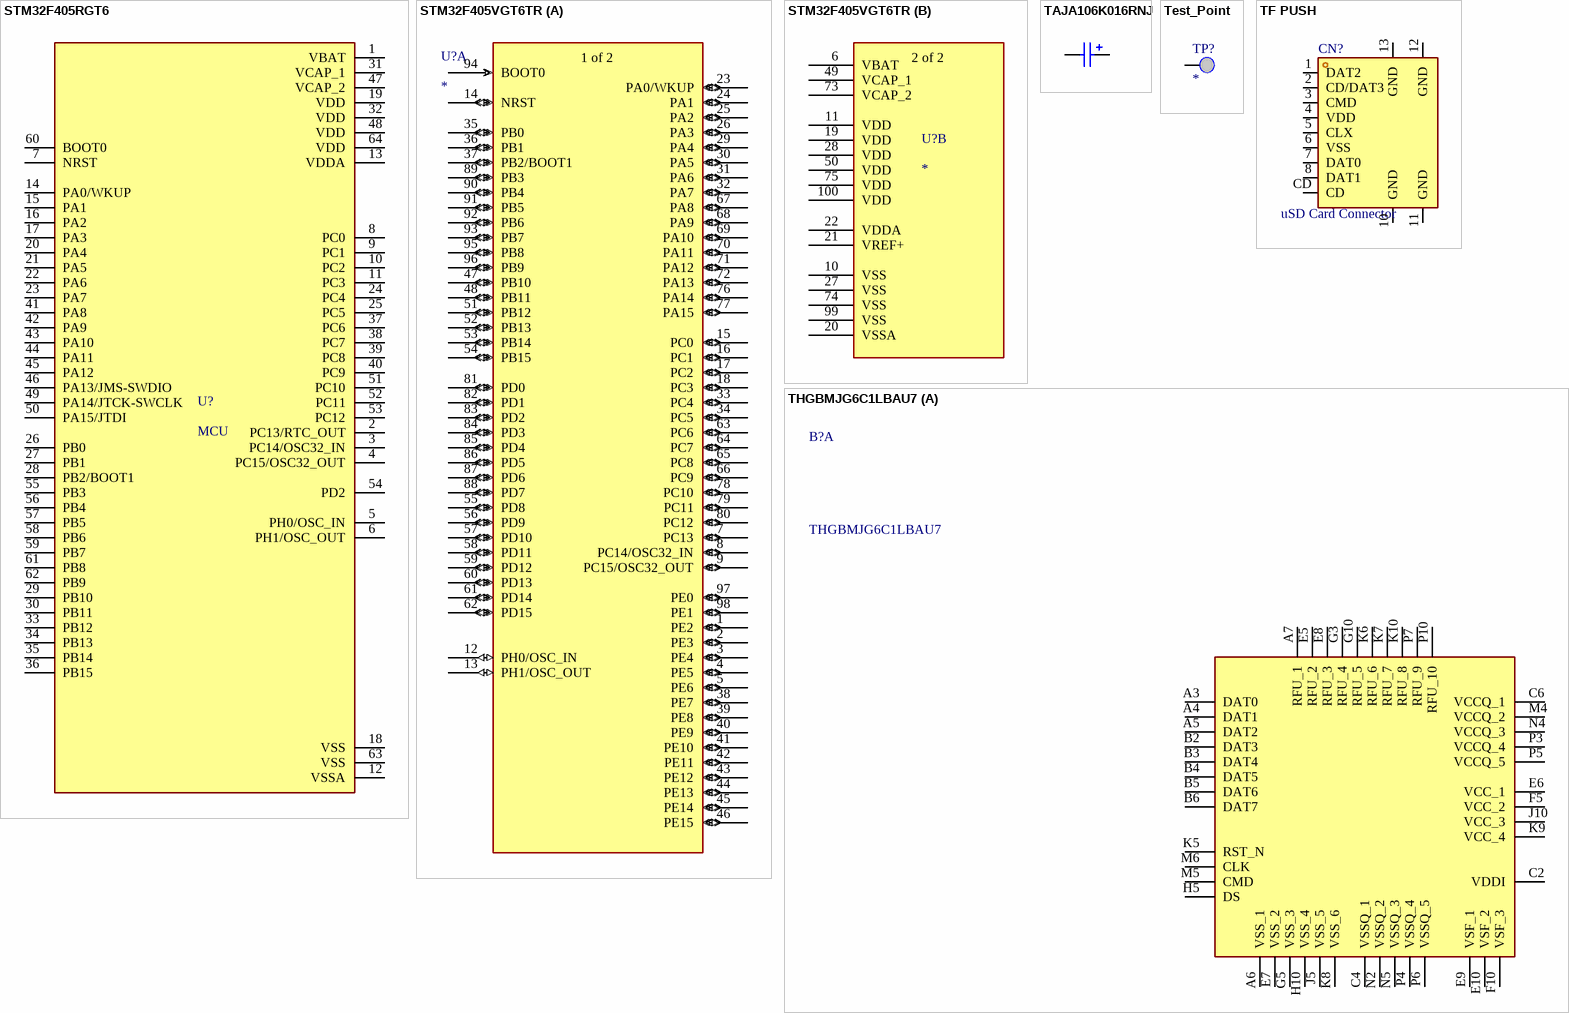
[diagram p6: symbols STM32F405RGT6 to THGBMJG6C1LBAU7]

## STM32F405RGT6
designator U?, comment MCU
ARM Cortex-M4 STM32F4 Microcontroller IC 32-Bit Single-Core 168MHz 1MB (1M x 8) FLASH 64-LQFP (10x10)
footprint LQFP64–64-pin, 10 x 10 mm
pins: 1 VBAT (power), 2 PC13/RTC_OUT, 3 PC14/OSC32_IN, 4 PC15/OSC32_OUT, 5 PH0/OSC_IN, 6 PH1/OSC_OUT, 7 NRST, 8 PC0, 9 PC1, 10 PC2, 11 PC3, 12 VSSA (power), 13 VDDA (power), 14 PA0/WKUP, 15 PA1, 16 PA2, 17 PA3, 18 VSS (power), 19 VDD (power), 20 PA4, 21 PA5, 22 PA6, 23 PA7, 24 PC4, 25 PC5, 26 PB0, 27 PB1, 28 PB2/BOOT1, 29 PB10, 30 PB11, 31 VCAP_1 (power), 32 VDD (power), 33 PB12, 34 PB13, 35 PB14, 36 PB15, 37 PC6, 38 PC7, 39 PC8, 40 PC9, 41 PA8, 42 PA9, 43 PA10, 44 PA11, 45 PA12, 46 PA13/JMS-SWDIO, 47 VCAP_2 (power), 48 VDD (power), 49 PA14/JTCK-SWCLK, 50 PA15/JTDI, 51 PC10, 52 PC11, 53 PC12, 54 PD2, 55 PB3, 56 PB4, 57 PB5, 58 PB6, 59 PB7, 60 BOOT0, 61 PB8, 62 PB9, 63 VSS (power), 64 VDD (power)

## STM32F405VGT6TR
designator U?
ARM Cortex-M4 STM32F4 Microcontroller IC 32-Bit Single-Core 168MHz 1MB (1M x 8) FLASH 100-LQFP (14x14); Mfr_Name: STMicroelectronics; RefDes: RefDes; Type: Type
footprint LQFP100-14x14mm
part A pins: 1 PE2 (io), 2 PE3 (io), 3 PE4 (io), 4 PE5 (io), 5 PE6 (io), 7 PC13 (io), 8 PC14/OSC32_IN (io), 9 PC15/OSC32_OUT (io), 12 PH0/OSC_IN (io), 13 PH1/OSC_OUT (io), 14 NRST (io), 15 PC0 (io), 16 PC1 (io), 17 PC2 (io), 18 PC3 (io), 23 PA0/WKUP (io), 24 PA1 (io), 25 PA2 (io), 26 PA3 (io), 29 PA4 (io), 30 PA5 (io), 31 PA6 (io), 32 PA7 (io), 33 PC4 (io), 34 PC5 (io), 35 PB0 (io), 36 PB1 (io), 37 PB2/BOOT1 (io), 38 PE7 (io), 39 PE8 (io), 40 PE9 (io), 41 PE10 (io), 42 PE11 (io), 43 PE12 (io), 44 PE13 (io), 45 PE14 (io), 46 PE15 (io), 47 PB10 (io), 48 PB11 (io), 51 PB12 (io), 52 PB13 (io), 53 PB14 (io), 54 PB15 (io), 55 PD8 (io), 56 PD9 (io), 57 PD10 (io), 58 PD11 (io), 59 PD12 (io), 60 PD13 (io), 61 PD14 (io), 62 PD15 (io), 63 PC6 (io), 64 PC7 (io), 65 PC8 (io), 66 PC9 (io), 67 PA8 (io), 68 PA9 (io), 69 PA10 (io), 70 PA11 (io), 71 PA12 (io), 72 PA13 (io), 76 PA14 (io), 77 PA15 (io), 78 PC10 (io), 79 PC11 (io), 80 PC12 (io), 81 PD0 (io), 82 PD1 (io), 83 PD2 (io), 84 PD3 (io), 85 PD4 (io), 86 PD5 (io), 87 PD6 (io), 88 PD7 (io), 89 PB3 (io), 90 PB4 (io), 91 PB5 (io), 92 PB6 (io), 93 PB7 (io), 94 BOOT0 (in), 95 PB8 (io), 96 PB9 (io), 97 PE0 (io), 98 PE1 (io)
part B pins: 6 VBAT (power), 10 VSS (power), 11 VDD (power), 19 VDD (power), 20 VSSA (power), 21 VREF+ (power), 22 VDDA (power), 27 VSS (power), 28 VDD (power), 49 VCAP_1 (power), 50 VDD (power), 73 VCAP_2 (power), 74 VSS (power), 75 VDD (power), 99 VSS (power), 100 VDD (power)
part A text: 1 of 2
part B text: 2 of 2

## TAJA106K016RNJ
designator C?, comment 10uF  (value not drawn)
Manufacturer: Kyocera AVX; Symbol: TAJA106K016RNJ; Add into BOM: yes; Tolerance: ±10%; Rated Voltage: 16V; Equivalent Series Resistance(ESR): 3Ω@100kHz; Device: TAJA106K016RNJ; LCSC Part Name: 10uF ±10% 16V; Supplier Part: C7171; Manufacturer Part: TAJA106K016RNJ; Supplier Footprint: CASE-A-3216; JLCPCB Part Class: Basic Part; Datasheet: https://atta.szlcsc.com/upload/public/pdf/source/20160107/1457707750344.pdf; Supplier: LCSC; Convert to PCB: yes; Value: 10uF; Operating Temperature: -55℃~+125℃
3D model CASE-A_L3.2-W1.6-H1.6
footprint CAP-SMD_L3.2-W1.6-RD-C7171
pins: 1, 2

## Test_Point
designator TP?
Test point
footprint Test_Point
pins: 1

## TF PUSH
designator CN?, comment uSD Card Connector
Manufacturer: SHOU HAN(首韩); Symbol: TF PUSH; Add into BOM: yes; Card Connection Mode: 自弹式; Card Type: MicroSD卡(TF卡); Connector Type: 卡座; Additional Card Detection Pins: 无; Maximum Body Height: 2mm; Device: TF PUSH; LCSC Part Name: 自弹式 MicroSD卡(TF卡) 卡座; Supplier Part: C393941; Manufacturer Part: TF PUSH; Supplier Footprint: SMD; JLCPCB Part Class: Extended Part; Datasheet: https://atta.szlcsc.com/upload/public/pdf/source/20191011/C393941_0DDD896EE907FEB750D8B7B8982E2A67.pdf; Supplier: LCSC; Convert to PCB: yes; Supplementary Features: -; Operating Temperature Range: -20℃~+90℃
footprint TF-SMD_TF-PUSH
3D model TF-SMD_TF-PUSH
pins: 1 DAT2, 2 CD/DAT3, 3 CMD, 4 VDD, 5 CLX, 6 VSS, 7 DAT0, 8 DAT1, 10 GND, 11 GND, 12 GND, 13 GND, CD

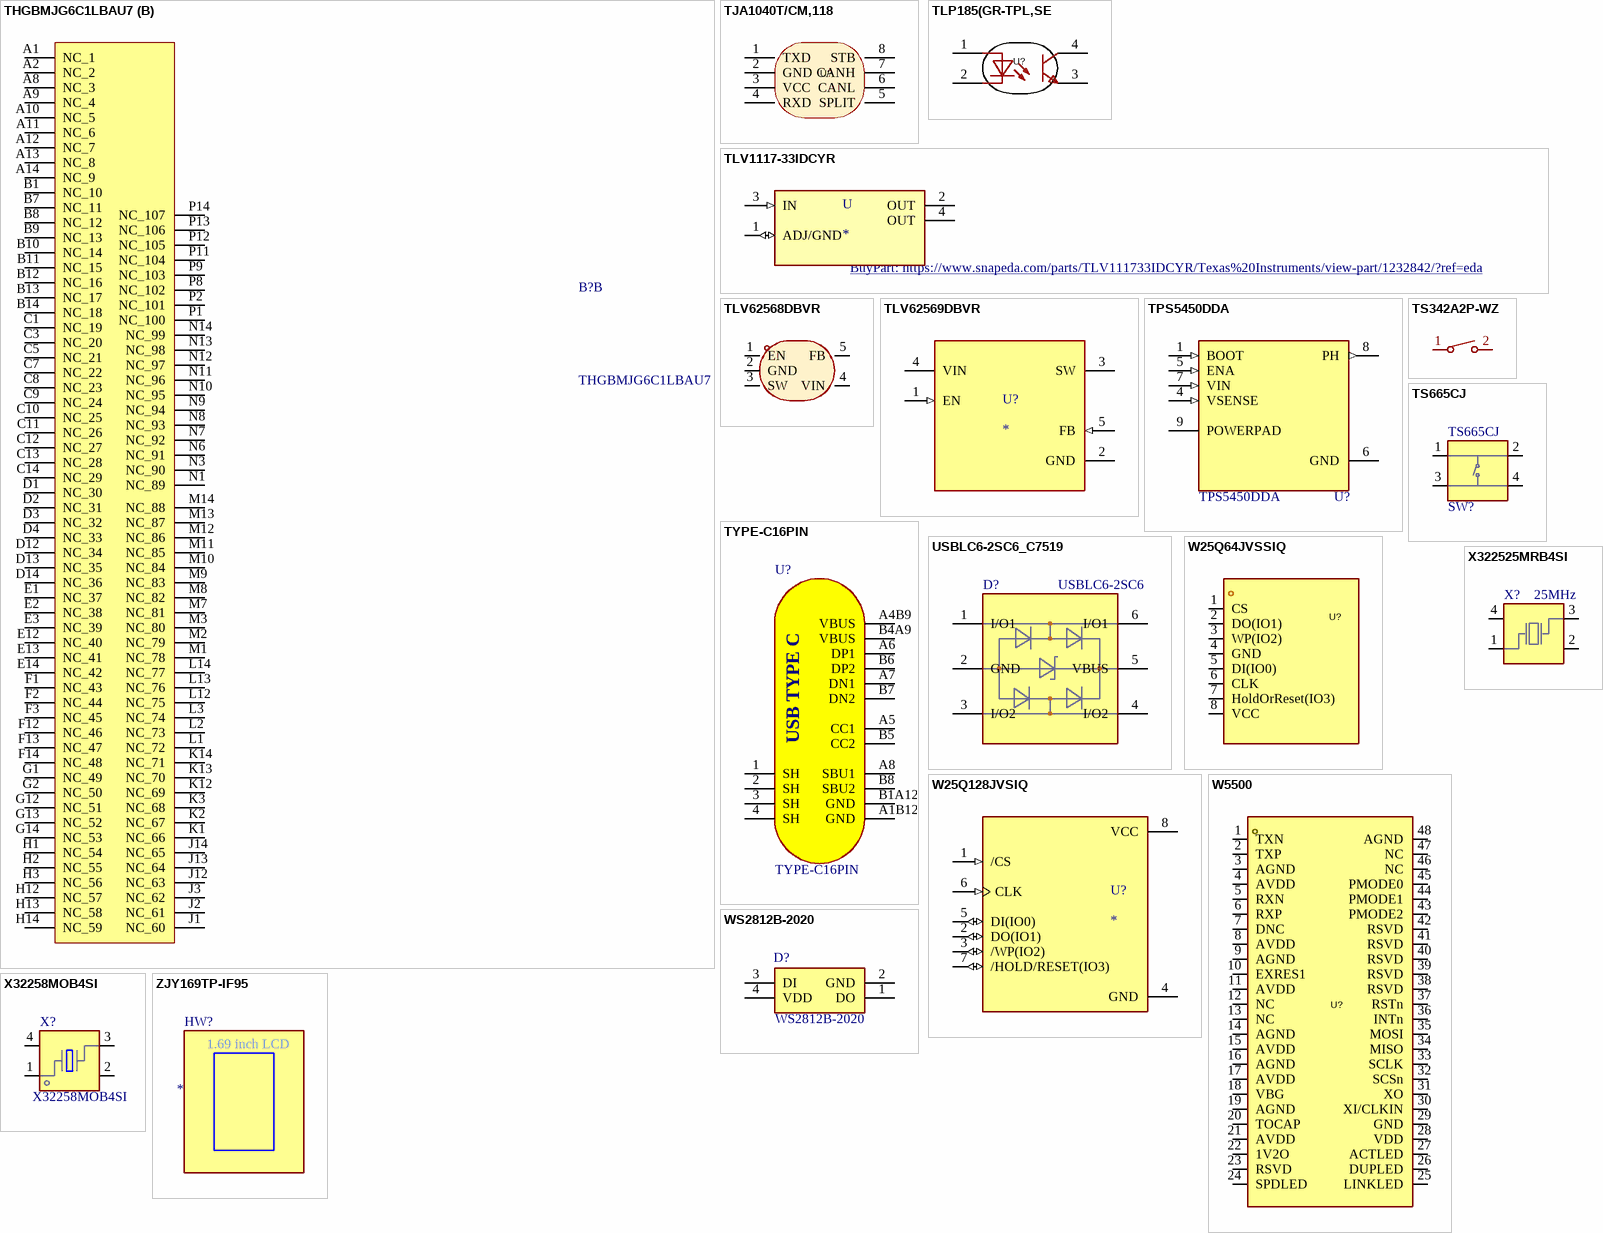
[diagram p7: symbols THGBMJG6C1LBAU7 to ZJY169TP-IF95]

## THGBMJG6C1LBAU7
designator B?
eMMC 8GB eMMC 5.1 2D 15nm -40C to 105C; Manufacturer_Name: KIOXIA Corporation; Geometry.Height: 1mm; Manufacturer_Part_Number: THGBMJG6C1LBAU7; Mouser Part Number: 757-THGBMJG6C1LBAU7; Mouser Price/Stock: https://www.mouser.co.uk/ProductDetail/Kioxia-America/THGBMJG6C1LBAU7?qs=vLWxofP3U2xCJoxOuGtdfA%3D%3D; Arrow Part Number: THGBMJG6C1LBAU7; Arrow Price/Stock: https://www.arrow.com/en/products/thgbmjg6c1lbau7/kioxia-corporation?region=nac; Datasheet Link: http://static6.arrow.com/aropdfconversion/a7d0c61835bb61123192d416e84e36dfb8b5ffda/jg6c1lbau7_15nm8gbe-mmcindustrialver5.1_e_rev.1.0_190215.pdf
footprint BGA153N50P14X14_1150X1300X80
part A pins: A3 DAT0, A4 DAT1, A5 DAT2, A6 VSS_1, A7 RFU_1, B2 DAT3, B3 DAT4, B4 DAT5, B5 DAT6, B6 DAT7, C2 VDDI, C4 VSSQ_1, C6 VCCQ_1, E5 RFU_2, E6 VCC_1, E7 VSS_2, E8 RFU_3, E9 VSF_1, E10 VSF_2, F5 VCC_2, F10 VSF_3, G3 RFU_4, G5 VSS_3, G10 RFU_5, H5 DS, H10 VSS_4, J5 VSS_5, J10 VCC_3, K5 RST_N, K6 RFU_6, K7 RFU_7, K8 VSS_6, K9 VCC_4, K10 RFU_8, M4 VCCQ_2, M5 CMD, M6 CLK, N2 VSSQ_2, N4 VCCQ_3, N5 VSSQ_3, P3 VCCQ_4, P4 VSSQ_4, P5 VCCQ_5, P6 VSSQ_5, P7 RFU_9, P10 RFU_10
part B pins: A1 NC_1, A2 NC_2, A8 NC_3, A9 NC_4, A10 NC_5, A11 NC_6, A12 NC_7, A13 NC_8, A14 NC_9, B1 NC_10, B7 NC_11, B8 NC_12, B9 NC_13, B10 NC_14, B11 NC_15, B12 NC_16, B13 NC_17, B14 NC_18, C1 NC_19, C3 NC_20, C5 NC_21, C7 NC_22, C8 NC_23, C9 NC_24, C10 NC_25, C11 NC_26, C12 NC_27, C13 NC_28, C14 NC_29, D1 NC_30, D2 NC_31, D3 NC_32, D4 NC_33, D12 NC_34, D13 NC_35, D14 NC_36, E1 NC_37, E2 NC_38, E3 NC_39, E12 NC_40, E13 NC_41, E14 NC_42, F1 NC_43, F2 NC_44, F3 NC_45, F12 NC_46, F13 NC_47, F14 NC_48, G1 NC_49, G2 NC_50, G12 NC_51, G13 NC_52, G14 NC_53, H1 NC_54, H2 NC_55, H3 NC_56, H12 NC_57, H13 NC_58, H14 NC_59, J1 NC_60, J2 NC_61, J3 NC_62, J12 NC_63, J13 NC_64, J14 NC_65, K1 NC_66, K2 NC_67, K3 NC_68, K12 NC_69, K13 NC_70, K14 NC_71, L1 NC_72, L2 NC_73, L3 NC_74, L12 NC_75, L13 NC_76, L14 NC_77, M1 NC_78, M2 NC_79, M3 NC_80, M7 NC_81, M8 NC_82, M9 NC_83, M10 NC_84, M11 NC_85, M12 NC_86, M13 NC_87, M14 NC_88, N1 NC_89, N3 NC_90, N6 NC_91, N7 NC_92, N8 NC_93, N9 NC_94, N10 NC_95, N11 NC_96, N12 NC_97, N13 NC_98, N14 NC_99, P1 NC_100, P2 NC_101, P8 NC_102, P9 NC_103, P11 NC_104, P12 NC_105, P13 NC_106, P14 NC_107

## TJA1040T/CM,118
designator U?  (value not drawn)
CAN Transceiver; Manufacturer: NXP(恩智浦); Add into BOM: yes; Supply Voltage: 4.75V~5.25V; Supply Current: 15uA; Symbol: TJA1040T/CM,118; Device: TJA1040T/CM,118; LCSC Part Name: 4.75V~5.25V; Supplier Part: C6951; Manufacturer Part: TJA1040T/CM,118; Supplier Footprint: SOIC-8; JLCPCB Part Class: Extended Part; Datasheet: https://atta.szlcsc.com/upload/public/pdf/source/20140819/1457707229647.pdf; Supplier: LCSC; Convert to PCB: yes; Type: 收发器; Operating Temperature: -40℃~+150℃
footprint SOIC-8_L5.0-W4.0-P1.27-LS6.0-BL
pins: 1 TXD, 2 GND, 3 VCC, 4 RXD, 5 SPLIT, 6 CANL, 7 CANH, 8 STB